# Altium integrated library Xilinx XC4000XL.IntLib: 450 symbols (part 5 of 58)
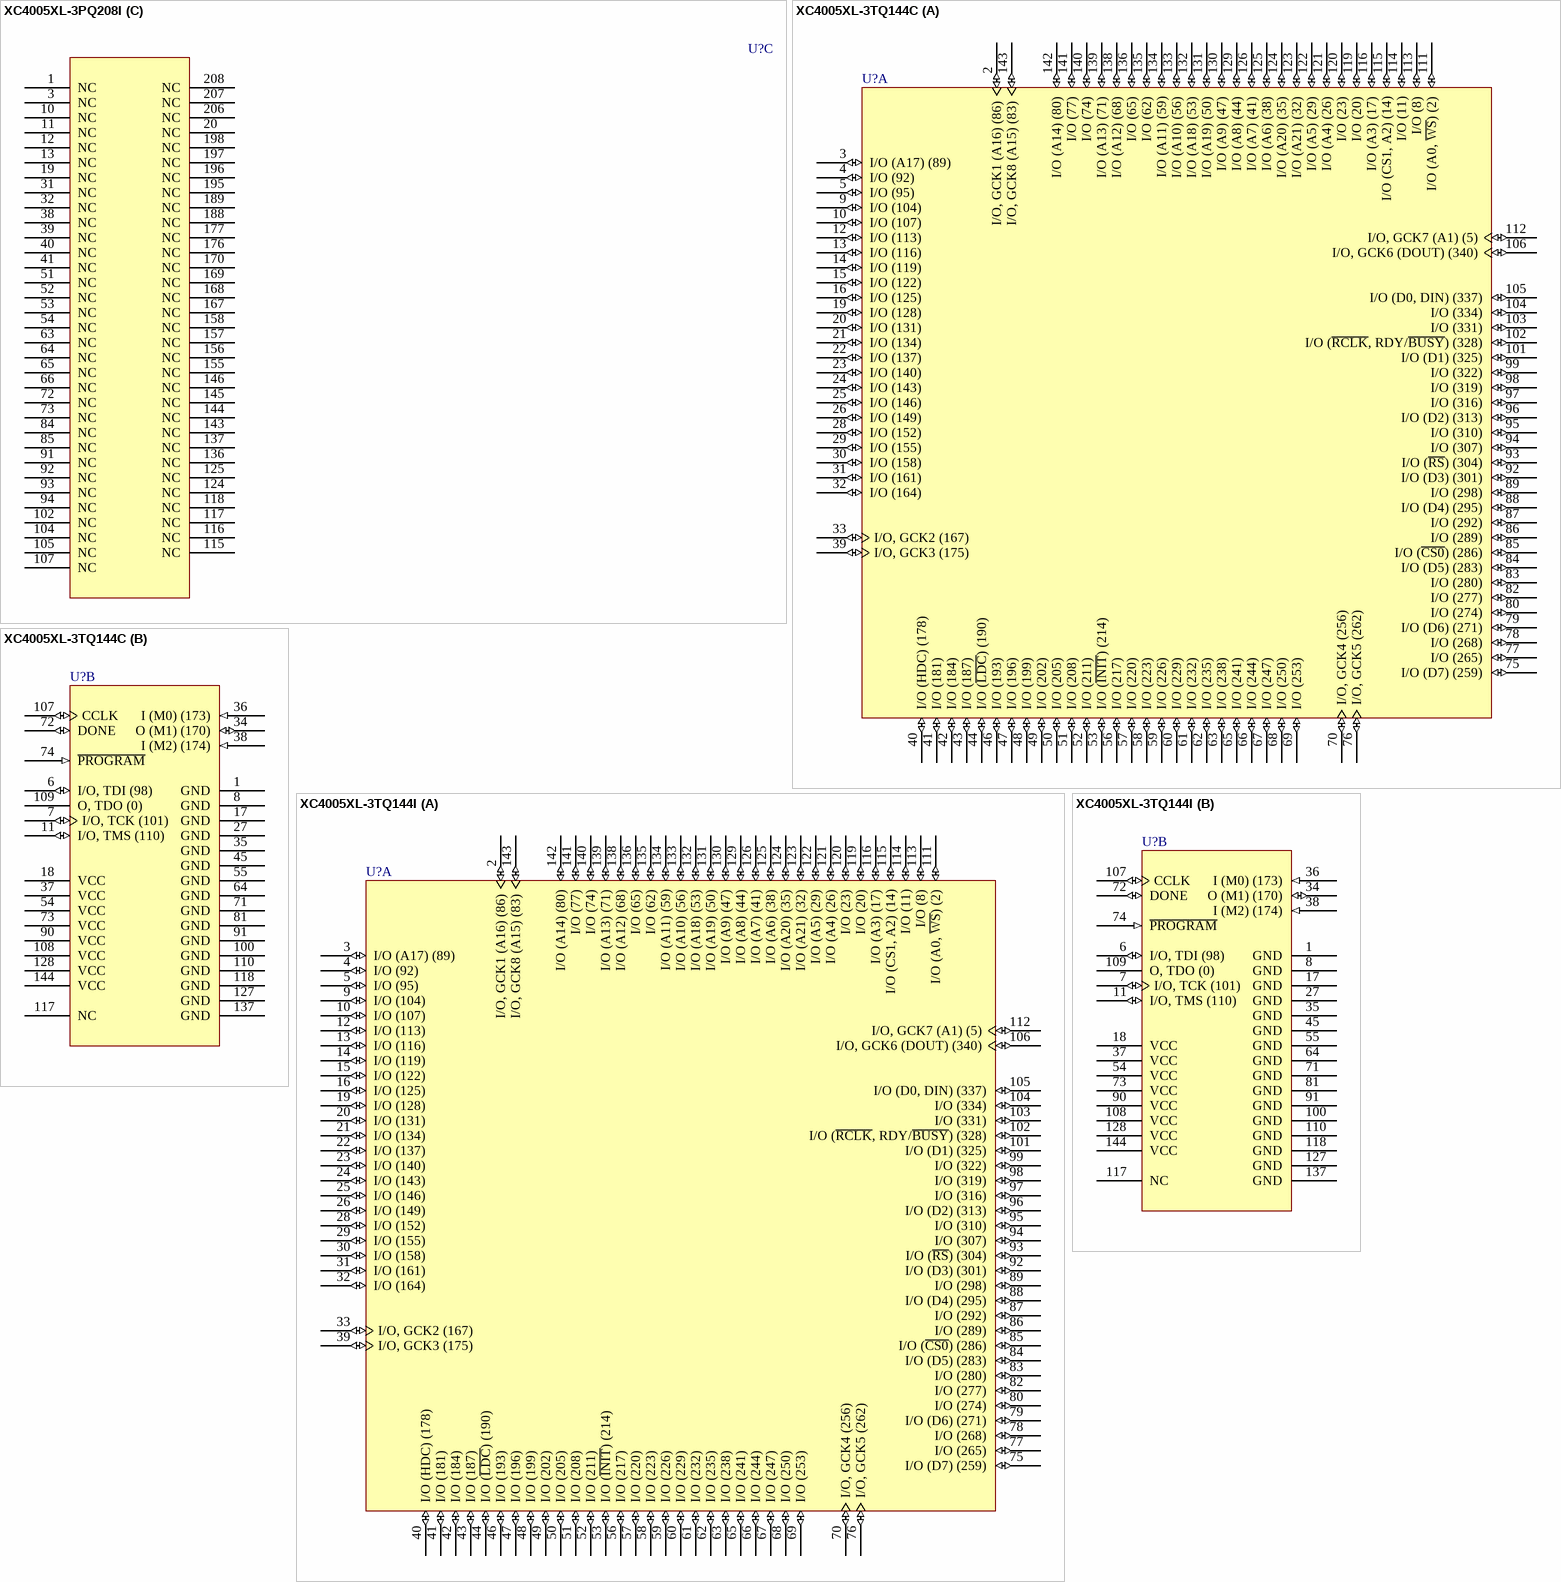
[diagram p403: symbols XC4005XL-3PQ208I to XC4005XL-3TQ144I]

## XC4005XL-3TQ144C
designator U?
XC4000XL FPGA, 112 I/Os, 144-Pin TQFP, Speed Grade 3, Commercial Grade; Published: 28-Feb-2003; LatestRevisionDate: 13-Apr-2006; LatestRevisionNote: IPC-7351 Footprint Added.; DatasheetVersion: ver1.6, May-1999; PackageVersion: ver1.2, Jun-2004; PackageReference: TQ144; Publisher: Altium Limited; PackageDescription: 144-Pin Thin Quad Flat Pack (TQ144); Supplier 1: Digi-Key; Supplier Part Number 1: XC4005XL-3TQ144C-ND; Code_JEDEC: MS-026-BFB; ComponentLink1Description: XC4000XL Datasheet; ComponentLink1URL: http://www.xilinx.com/support/documentation/data_sheets/4000.pdf; ComponentLink2Description: TQ144 Package Drawing; ComponentLink2URL: http://www.xilinx.com/support/documentation/package_specs/tq144.pdf; ComponentLink3Description: XC4000 Documents; ComponentLink3URL: http://www.xilinx.com/support/documentation/xc4000.htm; ComponentLink4Description: Xilinx.com Home; ComponentLink4URL: http://www.xilinx.com
footprint TQ144_N (Thin QFP, 144-Leads, Body 20x20mm, Pitch 0.5mm, IPC Medium Density)
footprint TQ144_L (Thin QFP, 144-Leads, Body 20x20mm, Pitch 0.5mm, IPC High Density)
footprint TQ144_M (Thin QFP, 144-Leads, Body 20x20mm, Pitch 0.5mm, IPC Low Density)
part A pins: 2 I/O, GCK1 (A16) (86) (io), 3 I/O (A17) (89) (io), 4 I/O (92) (io), 5 I/O (95) (io), 9 I/O (104) (io), 10 I/O (107) (io), 12 I/O (113) (io), 13 I/O (116) (io), 14 I/O (119) (io), 15 I/O (122) (io), 16 I/O (125) (io), 19 I/O (128) (io), 20 I/O (131) (io), 21 I/O (134) (io), 22 I/O (137) (io), 23 I/O (140) (io), 24 I/O (143) (io), 25 I/O (146) (io), 26 I/O (149) (io), 28 I/O (152) (io), 29 I/O (155) (io), 30 I/O (158) (io), 31 I/O (161) (io), 32 I/O (164) (io), 33 I/O, GCK2 (167) (io), 39 I/O, GCK3 (175) (io), 40 I/O (HDC) (178) (io), 41 I/O (181) (io), 42 I/O (184) (io), 43 I/O (187) (io), 44 I/O (~{LDC}) (190) (io), 46 I/O (193) (io), 47 I/O (196) (io), 48 I/O (199) (io), 49 I/O (202) (io), 50 I/O (205) (io), 51 I/O (208) (io), 52 I/O (211) (io), 53 I/O (~{INIT}) (214) (io), 56 I/O (217) (io), 57 I/O (220) (io), 58 I/O (223) (io), 59 I/O (226) (io), 60 I/O (229) (io), 61 I/O (232) (io), 62 I/O (235) (io), 63 I/O (238) (io), 65 I/O (241) (io), 66 I/O (244) (io), 67 I/O (247) (io), 68 I/O (250) (io), 69 I/O (253) (io), 70 I/O, GCK4 (256) (io), 75 I/O (D7) (259) (io), 76 I/O, GCK5 (262) (io), 77 I/O (265) (io), 78 I/O (268) (io), 79 I/O (D6) (271) (io), 80 I/O (274) (io), 82 I/O (277) (io), 83 I/O (280) (io), 84 I/O (D5) (283) (io), 85 I/O (~{CS0}) (286) (io), 86 I/O (289) (io), 87 I/O (292) (io), 88 I/O (D4) (295) (io), 89 I/O (298) (io), 92 I/O (D3) (301) (io), 93 I/O (~{RS}) (304) (io), 94 I/O (307) (io), 95 I/O (310) (io), 96 I/O (D2) (313) (io), 97 I/O (316) (io), 98 I/O (319) (io), 99 I/O (322) (io), 101 I/O (D1) (325) (io), 102 I/O (~{RCLK}, RDY/~{BUSY}) (328) (io), 103 I/O (331) (io), 104 I/O (334) (io), 105 I/O (D0, DIN) (337) (io), 106 I/O, GCK6 (DOUT) (340) (io), 111 I/O (A0, ~{WS}) (2) (io), 112 I/O, GCK7 (A1) (5) (io), 113 I/O (8) (io), 114 I/O (11) (io), 115 I/O (CS1, A2) (14) (io), 116 I/O (A3) (17) (io), 119 I/O (20) (io), 120 I/O (23) (io), 121 I/O (A4) (26) (io), 122 I/O (A5) (29) (io), 123 I/O (A21) (32) (io), 124 I/O (A20) (35) (io), 125 I/O (A6) (38) (io), 126 I/O (A7) (41) (io), 129 I/O (A8) (44) (io), 130 I/O (A9) (47) (io), 131 I/O (A19) (50) (io), 132 I/O (A18) (53) (io), 133 I/O (A10) (56) (io), 134 I/O (A11) (59) (io), 135 I/O (62) (io), 136 I/O (65) (io), 138 I/O (A12) (68) (io), 139 I/O (A13) (71) (io), 140 I/O (74) (io), 141 I/O (77) (io), 142 I/O (A14) (80) (io), 143 I/O, GCK8 (A15) (83) (io)
part B pins: 1 GND (power), 6 I/O, TDI (98) (io), 7 I/O, TCK (101) (io), 8 GND (power), 11 I/O, TMS (110) (io), 17 GND (power), 18 VCC (power), 27 GND (power), 34 O (M1) (170) (io), 35 GND (power), 36 I (M0) (173) (in), 37 VCC (power), 38 I (M2) (174) (in), 45 GND (power), 54 VCC (power), 55 GND (power), 64 GND (power), 71 GND (power), 72 DONE (io), 73 VCC (power), 74 ~{PROGRAM} (in), 81 GND (power), 90 VCC (power), 91 GND (power), 100 GND (power), 107 CCLK (io), 108 VCC (power), 109 O, TDO (0) (hiz), 110 GND (power), 117 NC, 118 GND (power), 127 GND (power), 128 VCC (power), 137 GND (power), 144 VCC (power)

## XC4005XL-3TQ144I
designator U?
XC4000XL FPGA, 112 I/Os, 144-Pin TQFP, Speed Grade 3, Industrial Grade; Published: 28-Feb-2003; LatestRevisionDate: 13-Apr-2006; LatestRevisionNote: IPC-7351 Footprint Added.; DatasheetVersion: ver1.6, May-1999; PackageVersion: ver1.2, Jun-2004; PackageReference: TQ144; Publisher: Altium Limited; PackageDescription: 144-Pin Thin Quad Flat Pack (TQ144); Supplier 1: Digi-Key; Supplier Part Number 1: XC4005XL-3TQ144I-ND; Code_JEDEC: MS-026-BFB; ComponentLink1Description: XC4000XL Datasheet; ComponentLink1URL: http://www.xilinx.com/support/documentation/data_sheets/4000.pdf; ComponentLink2Description: TQ144 Package Drawing; ComponentLink2URL: http://www.xilinx.com/support/documentation/package_specs/tq144.pdf; ComponentLink3Description: XC4000 Documents; ComponentLink3URL: http://www.xilinx.com/support/documentation/xc4000.htm; ComponentLink4Description: Xilinx.com Home; ComponentLink4URL: http://www.xilinx.com
footprint TQ144_N (Thin QFP, 144-Leads, Body 20x20mm, Pitch 0.5mm, IPC Medium Density)
footprint TQ144_L (Thin QFP, 144-Leads, Body 20x20mm, Pitch 0.5mm, IPC High Density)
footprint TQ144_M (Thin QFP, 144-Leads, Body 20x20mm, Pitch 0.5mm, IPC Low Density)
part A pins: 2 I/O, GCK1 (A16) (86) (io), 3 I/O (A17) (89) (io), 4 I/O (92) (io), 5 I/O (95) (io), 9 I/O (104) (io), 10 I/O (107) (io), 12 I/O (113) (io), 13 I/O (116) (io), 14 I/O (119) (io), 15 I/O (122) (io), 16 I/O (125) (io), 19 I/O (128) (io), 20 I/O (131) (io), 21 I/O (134) (io), 22 I/O (137) (io), 23 I/O (140) (io), 24 I/O (143) (io), 25 I/O (146) (io), 26 I/O (149) (io), 28 I/O (152) (io), 29 I/O (155) (io), 30 I/O (158) (io), 31 I/O (161) (io), 32 I/O (164) (io), 33 I/O, GCK2 (167) (io), 39 I/O, GCK3 (175) (io), 40 I/O (HDC) (178) (io), 41 I/O (181) (io), 42 I/O (184) (io), 43 I/O (187) (io), 44 I/O (~{LDC}) (190) (io), 46 I/O (193) (io), 47 I/O (196) (io), 48 I/O (199) (io), 49 I/O (202) (io), 50 I/O (205) (io), 51 I/O (208) (io), 52 I/O (211) (io), 53 I/O (~{INIT}) (214) (io), 56 I/O (217) (io), 57 I/O (220) (io), 58 I/O (223) (io), 59 I/O (226) (io), 60 I/O (229) (io), 61 I/O (232) (io), 62 I/O (235) (io), 63 I/O (238) (io), 65 I/O (241) (io), 66 I/O (244) (io), 67 I/O (247) (io), 68 I/O (250) (io), 69 I/O (253) (io), 70 I/O, GCK4 (256) (io), 75 I/O (D7) (259) (io), 76 I/O, GCK5 (262) (io), 77 I/O (265) (io), 78 I/O (268) (io), 79 I/O (D6) (271) (io), 80 I/O (274) (io), 82 I/O (277) (io), 83 I/O (280) (io), 84 I/O (D5) (283) (io), 85 I/O (~{CS0}) (286) (io), 86 I/O (289) (io), 87 I/O (292) (io), 88 I/O (D4) (295) (io), 89 I/O (298) (io), 92 I/O (D3) (301) (io), 93 I/O (~{RS}) (304) (io), 94 I/O (307) (io), 95 I/O (310) (io), 96 I/O (D2) (313) (io), 97 I/O (316) (io), 98 I/O (319) (io), 99 I/O (322) (io), 101 I/O (D1) (325) (io), 102 I/O (~{RCLK}, RDY/~{BUSY}) (328) (io), 103 I/O (331) (io), 104 I/O (334) (io), 105 I/O (D0, DIN) (337) (io), 106 I/O, GCK6 (DOUT) (340) (io), 111 I/O (A0, ~{WS}) (2) (io), 112 I/O, GCK7 (A1) (5) (io), 113 I/O (8) (io), 114 I/O (11) (io), 115 I/O (CS1, A2) (14) (io), 116 I/O (A3) (17) (io), 119 I/O (20) (io), 120 I/O (23) (io), 121 I/O (A4) (26) (io), 122 I/O (A5) (29) (io), 123 I/O (A21) (32) (io), 124 I/O (A20) (35) (io), 125 I/O (A6) (38) (io), 126 I/O (A7) (41) (io), 129 I/O (A8) (44) (io), 130 I/O (A9) (47) (io), 131 I/O (A19) (50) (io), 132 I/O (A18) (53) (io), 133 I/O (A10) (56) (io), 134 I/O (A11) (59) (io), 135 I/O (62) (io), 136 I/O (65) (io), 138 I/O (A12) (68) (io), 139 I/O (A13) (71) (io), 140 I/O (74) (io), 141 I/O (77) (io), 142 I/O (A14) (80) (io), 143 I/O, GCK8 (A15) (83) (io)
part B pins: 1 GND (power), 6 I/O, TDI (98) (io), 7 I/O, TCK (101) (io), 8 GND (power), 11 I/O, TMS (110) (io), 17 GND (power), 18 VCC (power), 27 GND (power), 34 O (M1) (170) (io), 35 GND (power), 36 I (M0) (173) (in), 37 VCC (power), 38 I (M2) (174) (in), 45 GND (power), 54 VCC (power), 55 GND (power), 64 GND (power), 71 GND (power), 72 DONE (io), 73 VCC (power), 74 ~{PROGRAM} (in), 81 GND (power), 90 VCC (power), 91 GND (power), 100 GND (power), 107 CCLK (io), 108 VCC (power), 109 O, TDO (0) (hiz), 110 GND (power), 117 NC, 118 GND (power), 127 GND (power), 128 VCC (power), 137 GND (power), 144 VCC (power)

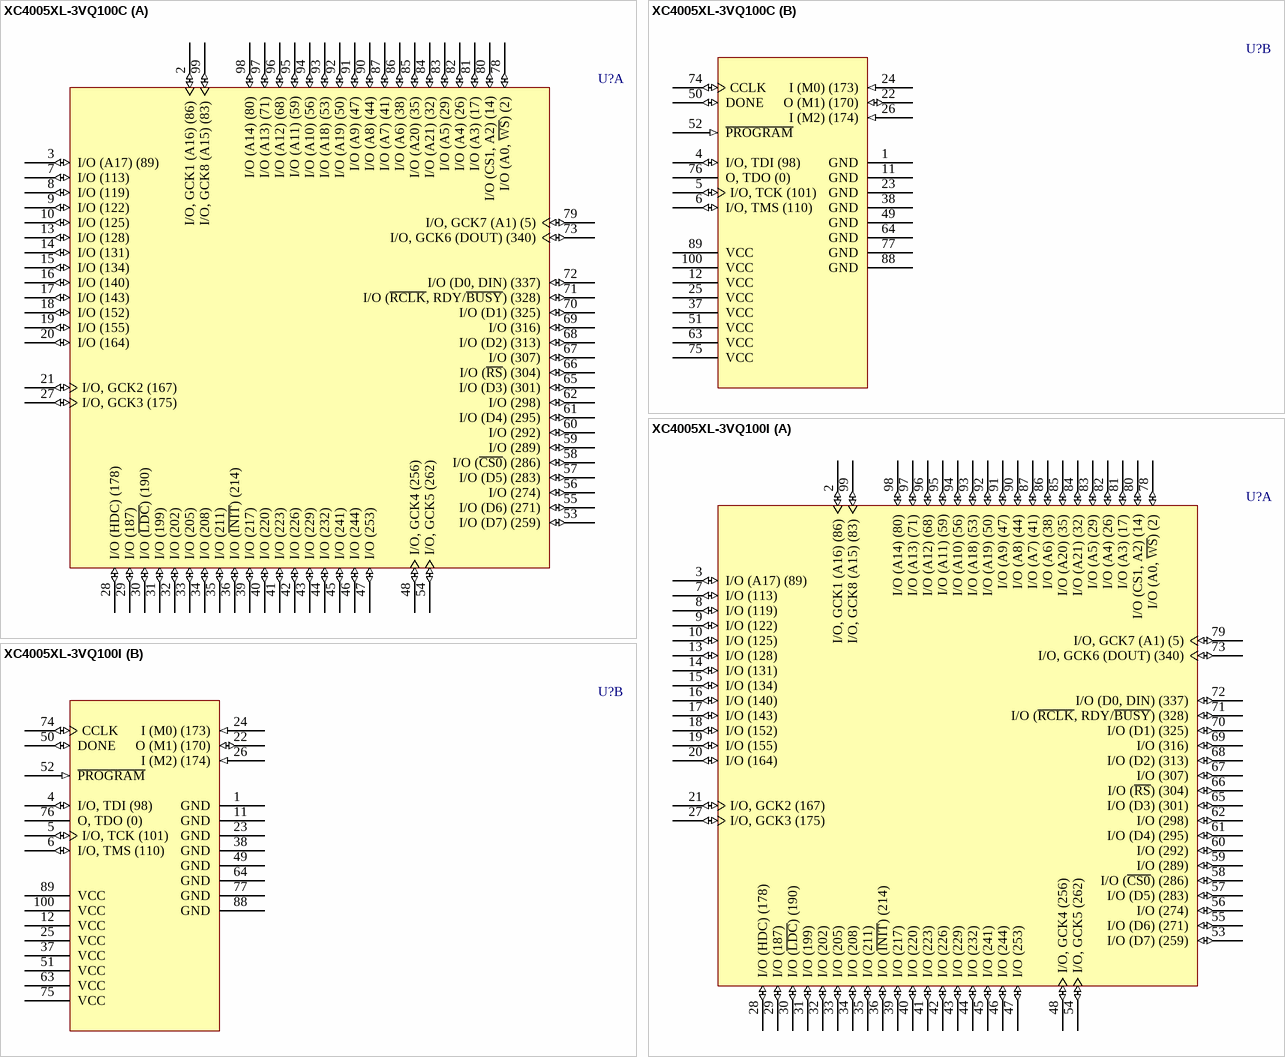
[diagram p23: symbols XC4005XL-3VQ100C to XC4005XL-3VQ100I]

## XC4005XL-3VQ100C
designator U?
XC4000XL FPGA, 77 I/Os, 100-Pin VQFP, Speed Grade 3, Commercial Grade; Published: 28-Feb-2003; LatestRevisionDate: 13-Apr-2006; LatestRevisionNote: IPC-7351 Footprint Added.; DatasheetVersion: ver1.6, May-1999; PackageVersion: ver1.2.1, Feb-2007; PackageReference: VQ100; Publisher: Altium Limited; PackageDescription: 100-Pin Very Thin Quad Flat Pack (VQ100); Supplier 1: Digi-Key; Supplier Part Number 1: XC4005XL-3VQ100C-ND; Code_JEDEC: MS-026-AED; ComponentLink1Description: XC4000XL Datasheet; ComponentLink1URL: http://www.xilinx.com/support/documentation/data_sheets/4000.pdf; ComponentLink2Description: VQ100 Package Drawing; ComponentLink2URL: http://www.xilinx.com/support/documentation/package_specs/vq100.pdf; ComponentLink3Description: XC4000 Documents; ComponentLink3URL: http://www.xilinx.com/support/documentation/xc4000.htm; ComponentLink4Description: Xilinx.com Home; ComponentLink4URL: http://www.xilinx.com
footprint VQ100_N (Thin QFP, 100-Leads, Body 14x14mm, Pitch 0.5mm, IPC Medium Density)
footprint VQ100_L (Thin QFP, 100-Leads, Body 14x14mm, Pitch 0.5mm, IPC High Density)
footprint VQ100_M (Thin QFP, 100-Leads, Body 14x14mm, Pitch 0.5mm, IPC Low Density)
part A pins: 2 I/O, GCK1 (A16) (86) (io), 3 I/O (A17) (89) (io), 7 I/O (113) (io), 8 I/O (119) (io), 9 I/O (122) (io), 10 I/O (125) (io), 13 I/O (128) (io), 14 I/O (131) (io), 15 I/O (134) (io), 16 I/O (140) (io), 17 I/O (143) (io), 18 I/O (152) (io), 19 I/O (155) (io), 20 I/O (164) (io), 21 I/O, GCK2 (167) (io), 27 I/O, GCK3 (175) (io), 28 I/O (HDC) (178) (io), 29 I/O (187) (io), 30 I/O (~{LDC}) (190) (io), 31 I/O (199) (io), 32 I/O (202) (io), 33 I/O (205) (io), 34 I/O (208) (io), 35 I/O (211) (io), 36 I/O (~{INIT}) (214) (io), 39 I/O (217) (io), 40 I/O (220) (io), 41 I/O (223) (io), 42 I/O (226) (io), 43 I/O (229) (io), 44 I/O (232) (io), 45 I/O (241) (io), 46 I/O (244) (io), 47 I/O (253) (io), 48 I/O, GCK4 (256) (io), 53 I/O (D7) (259) (io), 54 I/O, GCK5 (262) (io), 55 I/O (D6) (271) (io), 56 I/O (274) (io), 57 I/O (D5) (283) (io), 58 I/O (~{CS0}) (286) (io), 59 I/O (289) (io), 60 I/O (292) (io), 61 I/O (D4) (295) (io), 62 I/O (298) (io), 65 I/O (D3) (301) (io), 66 I/O (~{RS}) (304) (io), 67 I/O (307) (io), 68 I/O (D2) (313) (io), 69 I/O (316) (io), 70 I/O (D1) (325) (io), 71 I/O (~{RCLK}, RDY/~{BUSY}) (328) (io), 72 I/O (D0, DIN) (337) (io), 73 I/O, GCK6 (DOUT) (340) (io), 78 I/O (A0, ~{WS}) (2) (io), 79 I/O, GCK7 (A1) (5) (io), 80 I/O (CS1, A2) (14) (io), 81 I/O (A3) (17) (io), 82 I/O (A4) (26) (io), 83 I/O (A5) (29) (io), 84 I/O (A21) (32) (io), 85 I/O (A20) (35) (io), 86 I/O (A6) (38) (io), 87 I/O (A7) (41) (io), 90 I/O (A8) (44) (io), 91 I/O (A9) (47) (io), 92 I/O (A19) (50) (io), 93 I/O (A18) (53) (io), 94 I/O (A10) (56) (io), 95 I/O (A11) (59) (io), 96 I/O (A12) (68) (io), 97 I/O (A13) (71) (io), 98 I/O (A14) (80) (io), 99 I/O, GCK8 (A15) (83) (io)
part B pins: 1 GND (power), 4 I/O, TDI (98) (io), 5 I/O, TCK (101) (io), 6 I/O, TMS (110) (io), 11 GND (power), 12 VCC (power), 22 O (M1) (170) (io), 23 GND (power), 24 I (M0) (173) (in), 25 VCC (power), 26 I (M2) (174) (in), 37 VCC (power), 38 GND (power), 49 GND (power), 50 DONE (io), 51 VCC (power), 52 ~{PROGRAM} (in), 63 VCC (power), 64 GND (power), 74 CCLK (io), 75 VCC (power), 76 O, TDO (0) (hiz), 77 GND (power), 88 GND (power), 89 VCC (power), 100 VCC (power)

## XC4005XL-3VQ100I
designator U?
XC4000XL FPGA, 77 I/Os, 100-Pin VQFP, Speed Grade 3, Industrial Grade; Published: 28-Feb-2003; LatestRevisionDate: 13-Apr-2006; LatestRevisionNote: IPC-7351 Footprint Added.; DatasheetVersion: ver1.6, May-1999; PackageVersion: ver1.2.1, Feb-2007; PackageReference: VQ100; Publisher: Altium Limited; PackageDescription: 100-Pin Very Thin Quad Flat Pack (VQ100); Supplier 1: Digi-Key; Supplier Part Number 1: XC4005XL-3VQ100I-ND; Code_JEDEC: MS-026-AED; ComponentLink1Description: XC4000XL Datasheet; ComponentLink1URL: http://www.xilinx.com/support/documentation/data_sheets/4000.pdf; ComponentLink2Description: VQ100 Package Drawing; ComponentLink2URL: http://www.xilinx.com/support/documentation/package_specs/vq100.pdf; ComponentLink3Description: XC4000 Documents; ComponentLink3URL: http://www.xilinx.com/support/documentation/xc4000.htm; ComponentLink4Description: Xilinx.com Home; ComponentLink4URL: http://www.xilinx.com
footprint VQ100_N (Thin QFP, 100-Leads, Body 14x14mm, Pitch 0.5mm, IPC Medium Density)
footprint VQ100_L (Thin QFP, 100-Leads, Body 14x14mm, Pitch 0.5mm, IPC High Density)
footprint VQ100_M (Thin QFP, 100-Leads, Body 14x14mm, Pitch 0.5mm, IPC Low Density)
part A pins: 2 I/O, GCK1 (A16) (86) (io), 3 I/O (A17) (89) (io), 7 I/O (113) (io), 8 I/O (119) (io), 9 I/O (122) (io), 10 I/O (125) (io), 13 I/O (128) (io), 14 I/O (131) (io), 15 I/O (134) (io), 16 I/O (140) (io), 17 I/O (143) (io), 18 I/O (152) (io), 19 I/O (155) (io), 20 I/O (164) (io), 21 I/O, GCK2 (167) (io), 27 I/O, GCK3 (175) (io), 28 I/O (HDC) (178) (io), 29 I/O (187) (io), 30 I/O (~{LDC}) (190) (io), 31 I/O (199) (io), 32 I/O (202) (io), 33 I/O (205) (io), 34 I/O (208) (io), 35 I/O (211) (io), 36 I/O (~{INIT}) (214) (io), 39 I/O (217) (io), 40 I/O (220) (io), 41 I/O (223) (io), 42 I/O (226) (io), 43 I/O (229) (io), 44 I/O (232) (io), 45 I/O (241) (io), 46 I/O (244) (io), 47 I/O (253) (io), 48 I/O, GCK4 (256) (io), 53 I/O (D7) (259) (io), 54 I/O, GCK5 (262) (io), 55 I/O (D6) (271) (io), 56 I/O (274) (io), 57 I/O (D5) (283) (io), 58 I/O (~{CS0}) (286) (io), 59 I/O (289) (io), 60 I/O (292) (io), 61 I/O (D4) (295) (io), 62 I/O (298) (io), 65 I/O (D3) (301) (io), 66 I/O (~{RS}) (304) (io), 67 I/O (307) (io), 68 I/O (D2) (313) (io), 69 I/O (316) (io), 70 I/O (D1) (325) (io), 71 I/O (~{RCLK}, RDY/~{BUSY}) (328) (io), 72 I/O (D0, DIN) (337) (io), 73 I/O, GCK6 (DOUT) (340) (io), 78 I/O (A0, ~{WS}) (2) (io), 79 I/O, GCK7 (A1) (5) (io), 80 I/O (CS1, A2) (14) (io), 81 I/O (A3) (17) (io), 82 I/O (A4) (26) (io), 83 I/O (A5) (29) (io), 84 I/O (A21) (32) (io), 85 I/O (A20) (35) (io), 86 I/O (A6) (38) (io), 87 I/O (A7) (41) (io), 90 I/O (A8) (44) (io), 91 I/O (A9) (47) (io), 92 I/O (A19) (50) (io), 93 I/O (A18) (53) (io), 94 I/O (A10) (56) (io), 95 I/O (A11) (59) (io), 96 I/O (A12) (68) (io), 97 I/O (A13) (71) (io), 98 I/O (A14) (80) (io), 99 I/O, GCK8 (A15) (83) (io)
part B pins: 1 GND (power), 4 I/O, TDI (98) (io), 5 I/O, TCK (101) (io), 6 I/O, TMS (110) (io), 11 GND (power), 12 VCC (power), 22 O (M1) (170) (io), 23 GND (power), 24 I (M0) (173) (in), 25 VCC (power), 26 I (M2) (174) (in), 37 VCC (power), 38 GND (power), 49 GND (power), 50 DONE (io), 51 VCC (power), 52 ~{PROGRAM} (in), 63 VCC (power), 64 GND (power), 74 CCLK (io), 75 VCC (power), 76 O, TDO (0) (hiz), 77 GND (power), 88 GND (power), 89 VCC (power), 100 VCC (power)

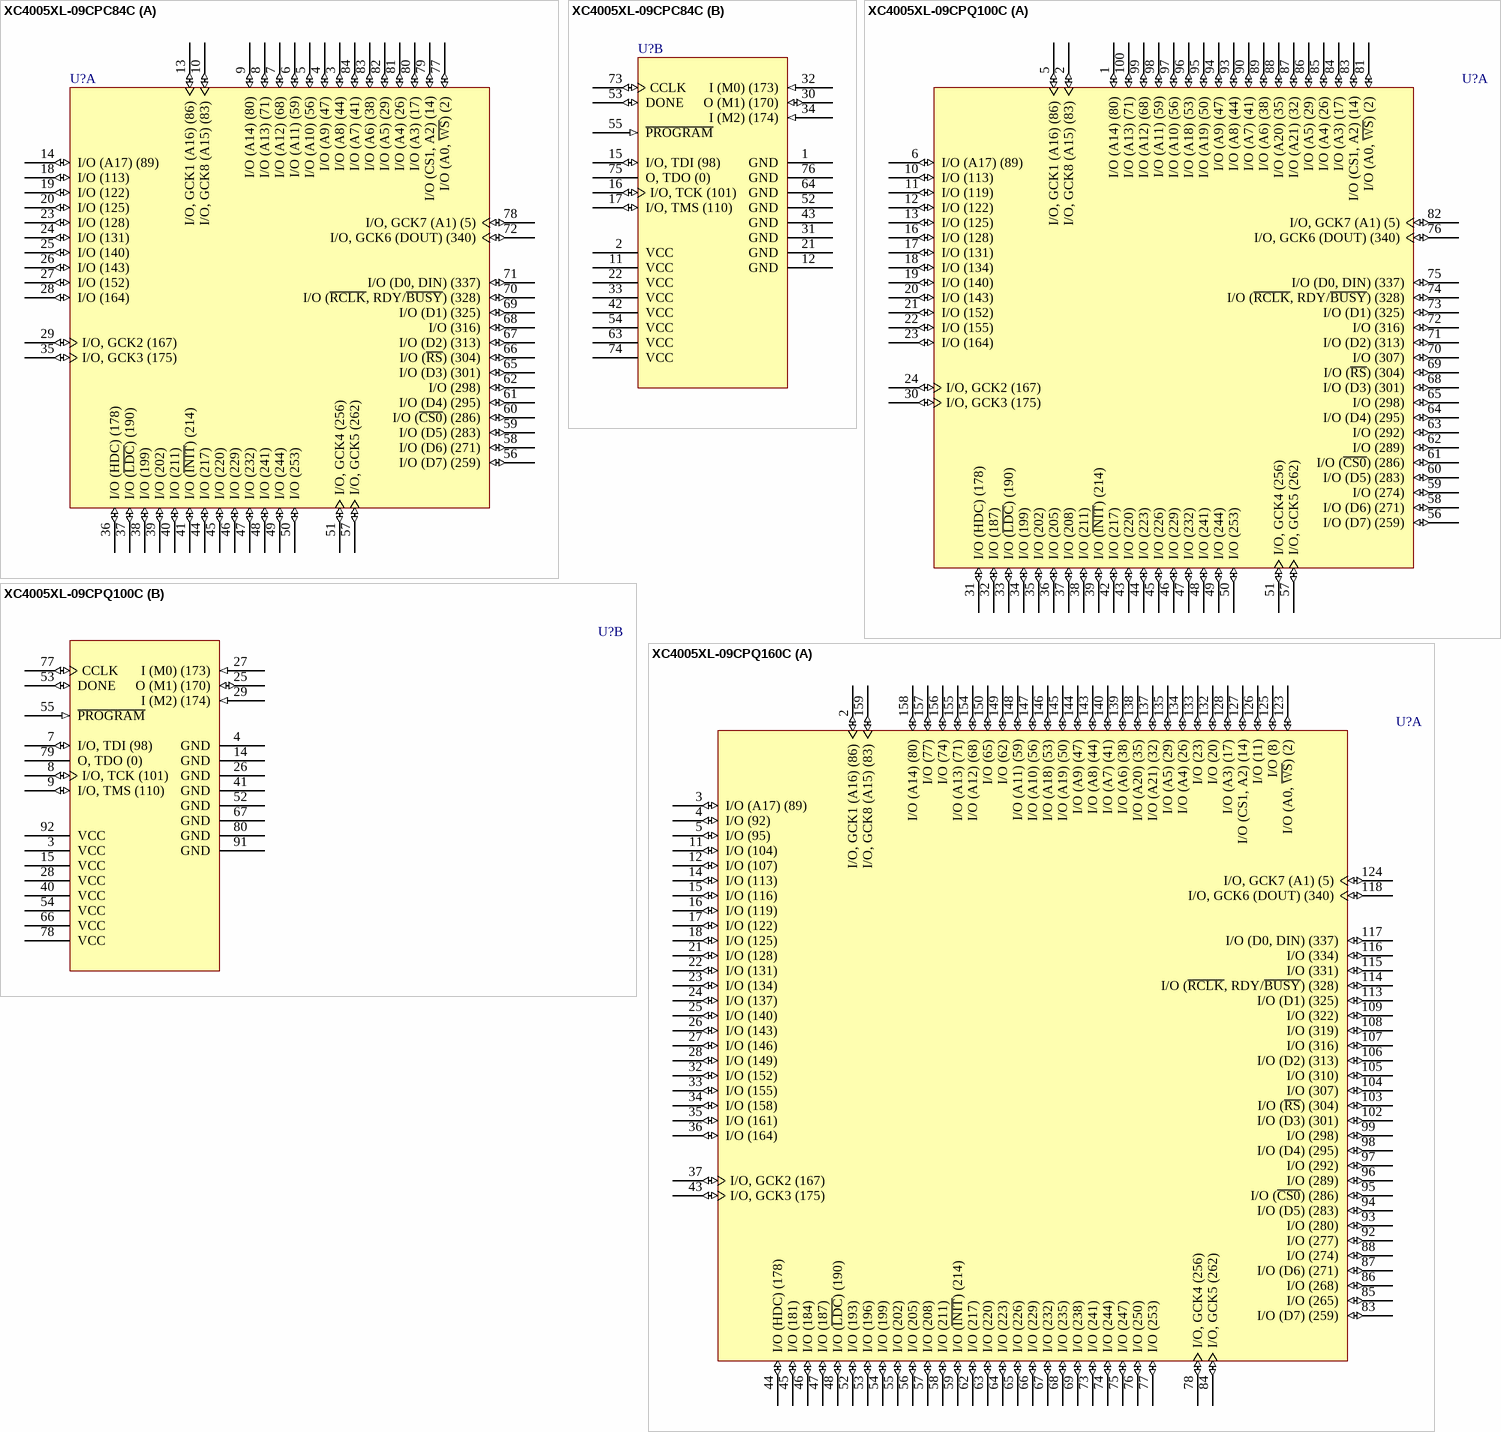
[diagram p24: symbols XC4005XL-09CPC84C to XC4005XL-09CPQ160C]

## XC4005XL-09CPC84C
designator U?
XC4000XL FPGA, 61 I/Os, 84-Pin PLCC, Speed Grade 9, Commercial Grade; Published: 28-Feb-2003; LatestRevisionDate: 13-Apr-2006; LatestRevisionNote: IPC-7351 Footprint Added.; DatasheetVersion: ver1.6, May-1999; PackageVersion: ver1.2, Jun-2004; PackageReference: PC84; Publisher: Altium Limited; PackageDescription: 84-Pin Plastic Leaded Chip Carrier (PC84); Code_JEDEC: MS-047; Code_IPC: PLCC-84; ComponentLink1Description: XC4000XL Datasheet; ComponentLink1URL: http://www.xilinx.com/support/documentation/data_sheets/4000.pdf; ComponentLink2Description: Discontinuation Notice; ComponentLink2URL: http://www.xilinx.com/support/documentation/customer_notices/pdn2004-21.pdf; ComponentLink3Description: PC84 Package Drawing; ComponentLink3URL: http://www.xilinx.com/support/documentation/package_specs/pc84.pdf; ComponentLink4Description: XC4000 Documents; ComponentLink4URL: http://www.xilinx.com/support/documentation/xc4000.htm; ComponentLink5Description: Xilinx.com Home; ComponentLink5URL: http://www.xilinx.com
footprint PC84_N (Leaded Chip Carrier, 84-Leads, Body 29.3x29.3mm, Pitch 1.27mm, IPC Medium Density)
footprint PC84_L (Leaded Chip Carrier, 84-Leads, Body 29.3x29.3mm, Pitch 1.27mm, IPC High Density)
footprint PC84_M (Leaded Chip Carrier, 84-Leads, Body 29.3x29.3mm, Pitch 1.27mm, IPC Low Density)
part A pins: 3 I/O (A8) (44) (io), 4 I/O (A9) (47) (io), 5 I/O (A10) (56) (io), 6 I/O (A11) (59) (io), 7 I/O (A12) (68) (io), 8 I/O (A13) (71) (io), 9 I/O (A14) (80) (io), 10 I/O, GCK8 (A15) (83) (io), 13 I/O, GCK1 (A16) (86) (io), 14 I/O (A17) (89) (io), 18 I/O (113) (io), 19 I/O (122) (io), 20 I/O (125) (io), 23 I/O (128) (io), 24 I/O (131) (io), 25 I/O (140) (io), 26 I/O (143) (io), 27 I/O (152) (io), 28 I/O (164) (io), 29 I/O, GCK2 (167) (io), 35 I/O, GCK3 (175) (io), 36 I/O (HDC) (178) (io), 37 I/O (~{LDC}) (190) (io), 38 I/O (199) (io), 39 I/O (202) (io), 40 I/O (211) (io), 41 I/O (~{INIT}) (214) (io), 44 I/O (217) (io), 45 I/O (220) (io), 46 I/O (229) (io), 47 I/O (232) (io), 48 I/O (241) (io), 49 I/O (244) (io), 50 I/O (253) (io), 51 I/O, GCK4 (256) (io), 56 I/O (D7) (259) (io), 57 I/O, GCK5 (262) (io), 58 I/O (D6) (271) (io), 59 I/O (D5) (283) (io), 60 I/O (~{CS0}) (286) (io), 61 I/O (D4) (295) (io), 62 I/O (298) (io), 65 I/O (D3) (301) (io), 66 I/O (~{RS}) (304) (io), 67 I/O (D2) (313) (io), 68 I/O (316) (io), 69 I/O (D1) (325) (io), 70 I/O (~{RCLK}, RDY/~{BUSY}) (328) (io), 71 I/O (D0, DIN) (337) (io), 72 I/O, GCK6 (DOUT) (340) (io), 77 I/O (A0, ~{WS}) (2) (io), 78 I/O, GCK7 (A1) (5) (io), 79 I/O (CS1, A2) (14) (io), 80 I/O (A3) (17) (io), 81 I/O (A4) (26) (io), 82 I/O (A5) (29) (io), 83 I/O (A6) (38) (io), 84 I/O (A7) (41) (io)
part B pins: 1 GND (power), 2 VCC (power), 11 VCC (power), 12 GND (power), 15 I/O, TDI (98) (io), 16 I/O, TCK (101) (io), 17 I/O, TMS (110) (io), 21 GND (power), 22 VCC (power), 30 O (M1) (170) (io), 31 GND (power), 32 I (M0) (173) (in), 33 VCC (power), 34 I (M2) (174) (in), 42 VCC (power), 43 GND (power), 52 GND (power), 53 DONE (io), 54 VCC (power), 55 ~{PROGRAM} (in), 63 VCC (power), 64 GND (power), 73 CCLK (io), 74 VCC (power), 75 O, TDO (0) (hiz), 76 GND (power)

## XC4005XL-09CPQ100C
designator U?
XC4000XL FPGA, 77 I/Os, 100-Pin PQFP, Speed Grade 9, Commercial Grade; Published: 28-Feb-2003; LatestRevisionDate: 13-Apr-2006; LatestRevisionNote: IPC-7351 Footprint Added.; DatasheetVersion: ver1.6, May-1999; PackageVersion: ver1.2, Oct-2002; PackageReference: PQ100; Publisher: Altium Limited; PackageDescription: 100-Pin Plastic Quad Flat Pack (PQ100); Code_IPC: QFP65P1720X2320-100; ComponentLink1Description: XC4000XL Datasheet; ComponentLink1URL: http://www.xilinx.com/support/documentation/data_sheets/4000.pdf; ComponentLink2Description: Discontinuation Notice; ComponentLink2URL: http://www.xilinx.com/support/documentation/customer_notices/pdn2004-21.pdf; ComponentLink3Description: PQ100 Package Drawing; ComponentLink3URL: http://www.xilinx.com/support/documentation/package_specs/pq100.pdf; ComponentLink4Description: XC4000 Documents; ComponentLink4URL: http://www.xilinx.com/support/documentation/xc4000.htm; ComponentLink5Description: Xilinx.com Home; ComponentLink5URL: http://www.xilinx.com
footprint PQ100_N (QFP, 100-Leads, Body 20x14mm, Pitch 0.65mm, IPC Medium Density)
footprint PQ100_L (QFP, 100-Leads, Body 20x14mm, Pitch 0.65mm, IPC High Density)
footprint PQ100_M (QFP, 100-Leads, Body 20x14mm, Pitch 0.65mm, IPC Low Density)
part A pins: 1 I/O (A14) (80) (io), 2 I/O, GCK8 (A15) (83) (io), 5 I/O, GCK1 (A16) (86) (io), 6 I/O (A17) (89) (io), 10 I/O (113) (io), 11 I/O (119) (io), 12 I/O (122) (io), 13 I/O (125) (io), 16 I/O (128) (io), 17 I/O (131) (io), 18 I/O (134) (io), 19 I/O (140) (io), 20 I/O (143) (io), 21 I/O (152) (io), 22 I/O (155) (io), 23 I/O (164) (io), 24 I/O, GCK2 (167) (io), 30 I/O, GCK3 (175) (io), 31 I/O (HDC) (178) (io), 32 I/O (187) (io), 33 I/O (~{LDC}) (190) (io), 34 I/O (199) (io), 35 I/O (202) (io), 36 I/O (205) (io), 37 I/O (208) (io), 38 I/O (211) (io), 39 I/O (~{INIT}) (214) (io), 42 I/O (217) (io), 43 I/O (220) (io), 44 I/O (223) (io), 45 I/O (226) (io), 46 I/O (229) (io), 47 I/O (232) (io), 48 I/O (241) (io), 49 I/O (244) (io), 50 I/O (253) (io), 51 I/O, GCK4 (256) (io), 56 I/O (D7) (259) (io), 57 I/O, GCK5 (262) (io), 58 I/O (D6) (271) (io), 59 I/O (274) (io), 60 I/O (D5) (283) (io), 61 I/O (~{CS0}) (286) (io), 62 I/O (289) (io), 63 I/O (292) (io), 64 I/O (D4) (295) (io), 65 I/O (298) (io), 68 I/O (D3) (301) (io), 69 I/O (~{RS}) (304) (io), 70 I/O (307) (io), 71 I/O (D2) (313) (io), 72 I/O (316) (io), 73 I/O (D1) (325) (io), 74 I/O (~{RCLK}, RDY/~{BUSY}) (328) (io), 75 I/O (D0, DIN) (337) (io), 76 I/O, GCK6 (DOUT) (340) (io), 81 I/O (A0, ~{WS}) (2) (io), 82 I/O, GCK7 (A1) (5) (io), 83 I/O (CS1, A2) (14) (io), 84 I/O (A3) (17) (io), 85 I/O (A4) (26) (io), 86 I/O (A5) (29) (io), 87 I/O (A21) (32) (io), 88 I/O (A20) (35) (io), 89 I/O (A6) (38) (io), 90 I/O (A7) (41) (io), 93 I/O (A8) (44) (io), 94 I/O (A9) (47) (io), 95 I/O (A19) (50) (io), 96 I/O (A18) (53) (io), 97 I/O (A10) (56) (io), 98 I/O (A11) (59) (io), 99 I/O (A12) (68) (io), 100 I/O (A13) (71) (io)
part B pins: 3 VCC (power), 4 GND (power), 7 I/O, TDI (98) (io), 8 I/O, TCK (101) (io), 9 I/O, TMS (110) (io), 14 GND (power), 15 VCC (power), 25 O (M1) (170) (io), 26 GND (power), 27 I (M0) (173) (in), 28 VCC (power), 29 I (M2) (174) (in), 40 VCC (power), 41 GND (power), 52 GND (power), 53 DONE (io), 54 VCC (power), 55 ~{PROGRAM} (in), 66 VCC (power), 67 GND (power), 77 CCLK (io), 78 VCC (power), 79 O, TDO (0) (hiz), 80 GND (power), 91 GND (power), 92 VCC (power)

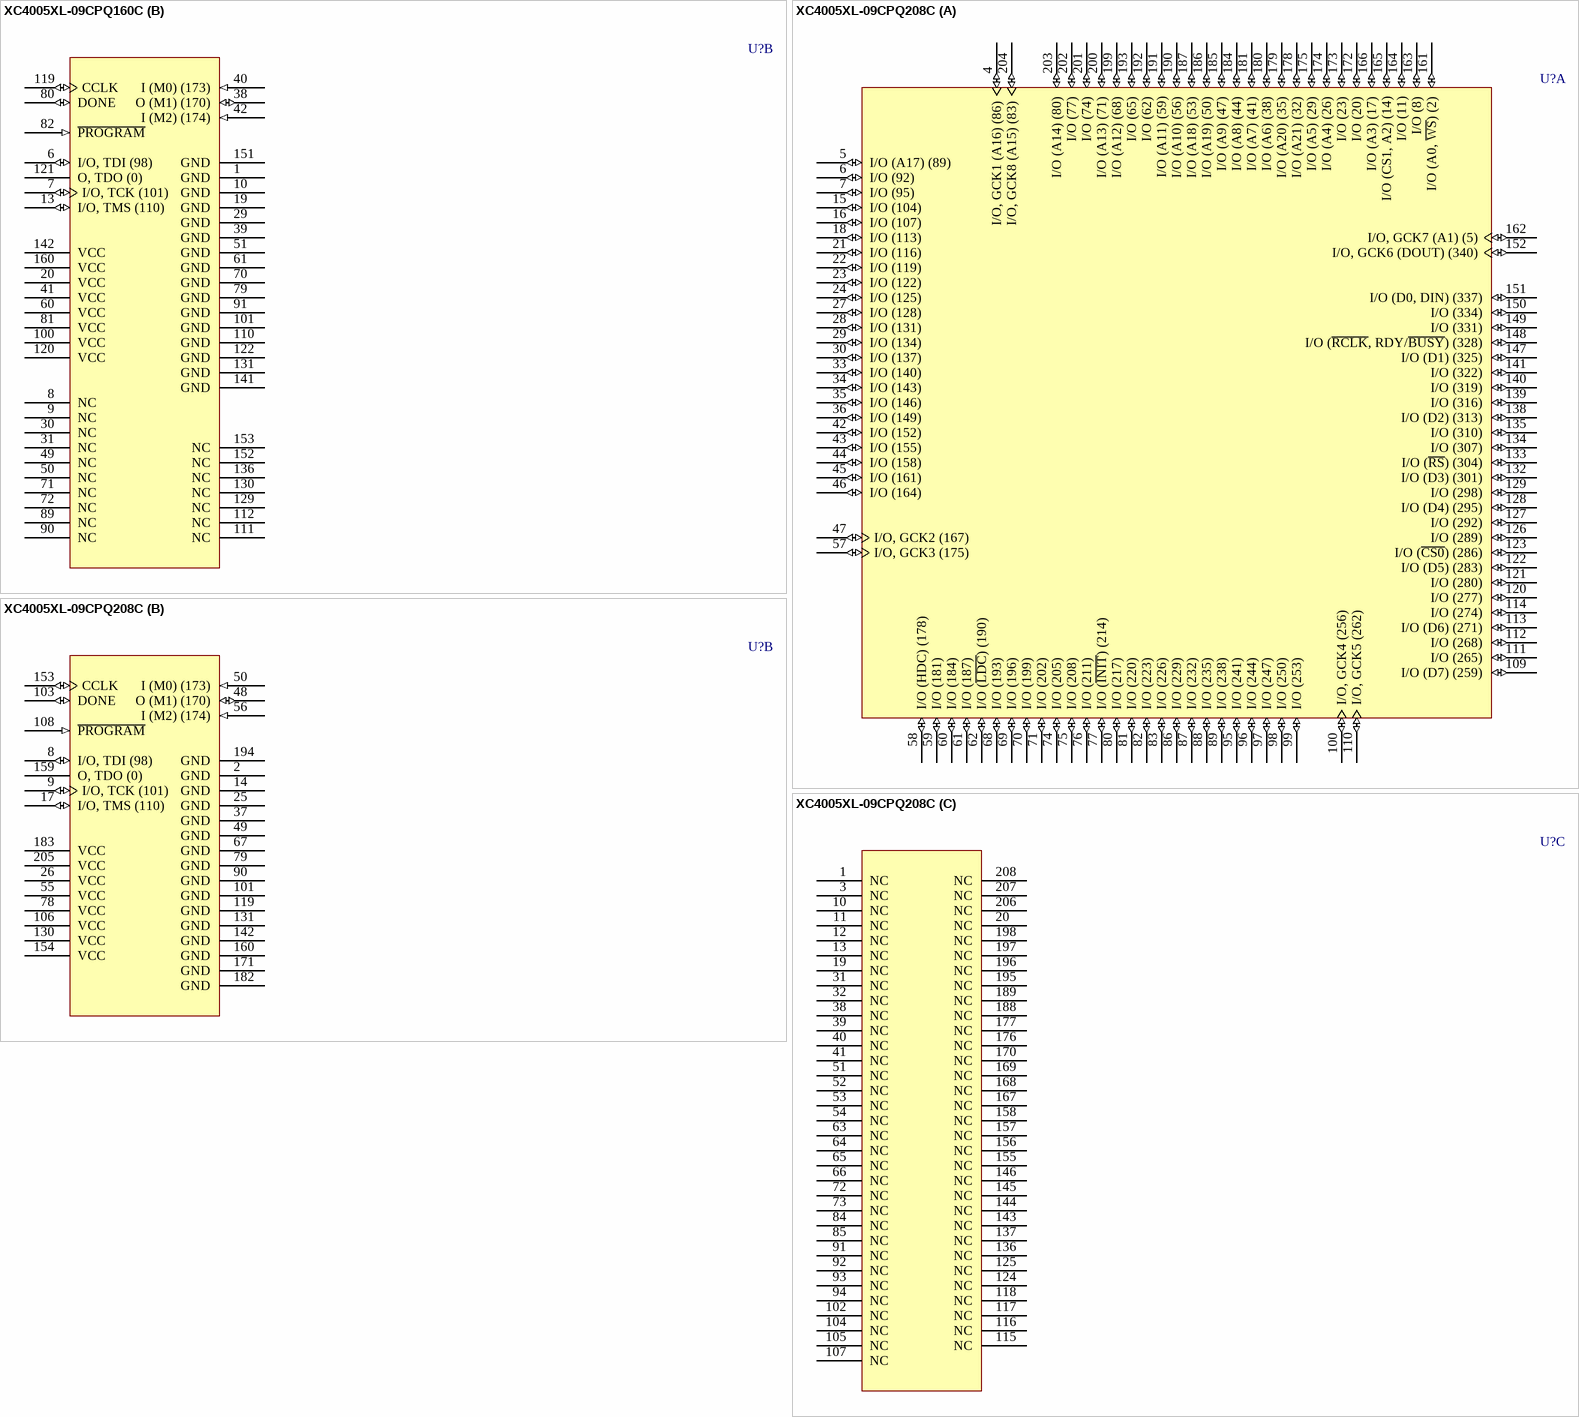
[diagram p25: symbols XC4005XL-09CPQ160C to XC4005XL-09CPQ208C]

## XC4005XL-09CPQ160C
designator U?
XC4000XL FPGA, 112 I/Os, 160-Pin PQFP, Speed Grade 9, Commercial Grade; Published: 28-Feb-2003; LatestRevisionDate: 13-Apr-2006; LatestRevisionNote: IPC-7351 Footprint Added.; DatasheetVersion: ver1.6, May-1999; PackageVersion: ver1.2, Jun-2004; PackageReference: PQ160; Publisher: Altium Limited; PackageDescription: 160-Pin Plastic Quad Flat Pack (PQ160); Code_JEDEC: MS-022-DD1; Code_IPC: QFP65P3120X3120-160; ComponentLink1Description: XC4000XL Datasheet; ComponentLink1URL: http://www.xilinx.com/support/documentation/data_sheets/4000.pdf; ComponentLink2Description: PQ160 Package Drawing; ComponentLink2URL: http://www.xilinx.com/support/documentation/package_specs/pq160.pdf; ComponentLink3Description: XC4000 Documents; ComponentLink3URL: http://www.xilinx.com/support/documentation/xc4000.htm; ComponentLink4Description: Xilinx.com Home; ComponentLink4URL: http://www.xilinx.com
footprint PQ160_N (QFP, 160-Leads, Body 28x28mm, Pitch 0.65mm, IPC Medium Density)
footprint PQ160_L (QFP, 160-Leads, Body 28x28mm, Pitch 0.65mm, IPC High Density)
footprint PQ160_M (QFP, 160-Leads, Body 28x28mm, Pitch 0.65mm, IPC Low Density)
part A pins: 2 I/O, GCK1 (A16) (86) (io), 3 I/O (A17) (89) (io), 4 I/O (92) (io), 5 I/O (95) (io), 11 I/O (104) (io), 12 I/O (107) (io), 14 I/O (113) (io), 15 I/O (116) (io), 16 I/O (119) (io), 17 I/O (122) (io), 18 I/O (125) (io), 21 I/O (128) (io), 22 I/O (131) (io), 23 I/O (134) (io), 24 I/O (137) (io), 25 I/O (140) (io), 26 I/O (143) (io), 27 I/O (146) (io), 28 I/O (149) (io), 32 I/O (152) (io), 33 I/O (155) (io), 34 I/O (158) (io), 35 I/O (161) (io), 36 I/O (164) (io), 37 I/O, GCK2 (167) (io), 43 I/O, GCK3 (175) (io), 44 I/O (HDC) (178) (io), 45 I/O (181) (io), 46 I/O (184) (io), 47 I/O (187) (io), 48 I/O (~{LDC}) (190) (io), 52 I/O (193) (io), 53 I/O (196) (io), 54 I/O (199) (io), 55 I/O (202) (io), 56 I/O (205) (io), 57 I/O (208) (io), 58 I/O (211) (io), 59 I/O (~{INIT}) (214) (io), 62 I/O (217) (io), 63 I/O (220) (io), 64 I/O (223) (io), 65 I/O (226) (io), 66 I/O (229) (io), 67 I/O (232) (io), 68 I/O (235) (io), 69 I/O (238) (io), 73 I/O (241) (io), 74 I/O (244) (io), 75 I/O (247) (io), 76 I/O (250) (io), 77 I/O (253) (io), 78 I/O, GCK4 (256) (io), 83 I/O (D7) (259) (io), 84 I/O, GCK5 (262) (io), 85 I/O (265) (io), 86 I/O (268) (io), 87 I/O (D6) (271) (io), 88 I/O (274) (io), 92 I/O (277) (io), 93 I/O (280) (io), 94 I/O (D5) (283) (io), 95 I/O (~{CS0}) (286) (io), 96 I/O (289) (io), 97 I/O (292) (io), 98 I/O (D4) (295) (io), 99 I/O (298) (io), 102 I/O (D3) (301) (io), 103 I/O (~{RS}) (304) (io), 104 I/O (307) (io), 105 I/O (310) (io), 106 I/O (D2) (313) (io), 107 I/O (316) (io), 108 I/O (319) (io), 109 I/O (322) (io), 113 I/O (D1) (325) (io), 114 I/O (~{RCLK}, RDY/~{BUSY}) (328) (io), 115 I/O (331) (io), 116 I/O (334) (io), 117 I/O (D0, DIN) (337) (io), 118 I/O, GCK6 (DOUT) (340) (io), 123 I/O (A0, ~{WS}) (2) (io), 124 I/O, GCK7 (A1) (5) (io), 125 I/O (8) (io), 126 I/O (11) (io), 127 I/O (CS1, A2) (14) (io), 128 I/O (A3) (17) (io), 132 I/O (20) (io), 133 I/O (23) (io), 134 I/O (A4) (26) (io), 135 I/O (A5) (29) (io), 137 I/O (A21) (32) (io), 138 I/O (A20) (35) (io), 139 I/O (A6) (38) (io), 140 I/O (A7) (41) (io), 143 I/O (A8) (44) (io), 144 I/O (A9) (47) (io), 145 I/O (A19) (50) (io), 146 I/O (A18) (53) (io), 147 I/O (A10) (56) (io), 148 I/O (A11) (59) (io), 149 I/O (62) (io), 150 I/O (65) (io), 154 I/O (A12) (68) (io), 155 I/O (A13) (71) (io), 156 I/O (74) (io), 157 I/O (77) (io), 158 I/O (A14) (80) (io), 159 I/O, GCK8 (A15) (83) (io)
part B pins: 1 GND (power), 6 I/O, TDI (98) (io), 7 I/O, TCK (101) (io), 8 NC, 9 NC, 10 GND (power), 13 I/O, TMS (110) (io), 19 GND (power), 20 VCC (power), 29 GND (power), 30 NC, 31 NC, 38 O (M1) (170) (io), 39 GND (power), 40 I (M0) (173) (in), 41 VCC (power), 42 I (M2) (174) (in), 49 NC, 50 NC, 51 GND (power), 60 VCC (power), 61 GND (power), 70 GND (power), 71 NC, 72 NC, 79 GND (power), 80 DONE (io), 81 VCC (power), 82 ~{PROGRAM} (in), 89 NC, 90 NC, 91 GND (power), 100 VCC (power), 101 GND (power), 110 GND (power), 111 NC, 112 NC, 119 CCLK (io), 120 VCC (power), 121 O, TDO (0) (hiz), 122 GND (power), 129 NC, 130 NC, 131 GND (power), 136 NC, 141 GND (power), 142 VCC (power), 151 GND (power), 152 NC, 153 NC, 160 VCC (power)

## XC4005XL-09CPQ208C
designator U?
XC4000XL FPGA, 112 I/Os, 208-Pin PQFP, Speed Grade 9, Commercial Grade; Published: 28-Feb-2003; LatestRevisionDate: 13-Apr-2006; LatestRevisionNote: IPC-7351 Footprint Added.; DatasheetVersion: ver1.6, May-1999; PackageVersion: ver1.2, Jun-2004; PackageReference: PQ208; Publisher: Altium Limited; PackageDescription: 208-Pin Plastic Quad Flat Pack (PQ208); Code_JEDEC: MS-029-FA-1; ComponentLink1Description: XC4000XL Datasheet; ComponentLink1URL: http://www.xilinx.com/support/documentation/data_sheets/4000.pdf; ComponentLink2Description: PQ208 Package Drawing; ComponentLink2URL: http://www.xilinx.com/support/documentation/package_specs/pq208.pdf; ComponentLink3Description: XC4000 Documents; ComponentLink3URL: http://www.xilinx.com/support/documentation/xc4000.htm; ComponentLink4Description: Xilinx.com Home; ComponentLink4URL: http://www.xilinx.com
footprint PQ208_N (Shrink QFP, 208-Leads, Body 28x28mm, Pitch 0.5mm, IPC Medium Density)
footprint PQ208_L (Shrink QFP, 208-Leads, Body 28x28mm, Pitch 0.5mm, IPC High Density)
footprint PQ208_M (Shrink QFP, 208-Leads, Body 28x28mm, Pitch 0.5mm, IPC Low Density)
part A pins: 4 I/O, GCK1 (A16) (86) (io), 5 I/O (A17) (89) (io), 6 I/O (92) (io), 7 I/O (95) (io), 15 I/O (104) (io), 16 I/O (107) (io), 18 I/O (113) (io), 21 I/O (116) (io), 22 I/O (119) (io), 23 I/O (122) (io), 24 I/O (125) (io), 27 I/O (128) (io), 28 I/O (131) (io), 29 I/O (134) (io), 30 I/O (137) (io), 33 I/O (140) (io), 34 I/O (143) (io), 35 I/O (146) (io), 36 I/O (149) (io), 42 I/O (152) (io), 43 I/O (155) (io), 44 I/O (158) (io), 45 I/O (161) (io), 46 I/O (164) (io), 47 I/O, GCK2 (167) (io), 57 I/O, GCK3 (175) (io), 58 I/O (HDC) (178) (io), 59 I/O (181) (io), 60 I/O (184) (io), 61 I/O (187) (io), 62 I/O (~{LDC}) (190) (io), 68 I/O (193) (io), 69 I/O (196) (io), 70 I/O (199) (io), 71 I/O (202) (io), 74 I/O (205) (io), 75 I/O (208) (io), 76 I/O (211) (io), 77 I/O (~{INIT}) (214) (io), 80 I/O (217) (io), 81 I/O (220) (io), 82 I/O (223) (io), 83 I/O (226) (io), 86 I/O (229) (io), 87 I/O (232) (io), 88 I/O (235) (io), 89 I/O (238) (io), 95 I/O (241) (io), 96 I/O (244) (io), 97 I/O (247) (io), 98 I/O (250) (io), 99 I/O (253) (io), 100 I/O, GCK4 (256) (io), 109 I/O (D7) (259) (io), 110 I/O, GCK5 (262) (io), 111 I/O (265) (io), 112 I/O (268) (io), 113 I/O (D6) (271) (io), 114 I/O (274) (io), 120 I/O (277) (io), 121 I/O (280) (io), 122 I/O (D5) (283) (io), 123 I/O (~{CS0}) (286) (io), 126 I/O (289) (io), 127 I/O (292) (io), 128 I/O (D4) (295) (io), 129 I/O (298) (io), 132 I/O (D3) (301) (io), 133 I/O (~{RS}) (304) (io), 134 I/O (307) (io), 135 I/O (310) (io), 138 I/O (D2) (313) (io), 139 I/O (316) (io), 140 I/O (319) (io), 141 I/O (322) (io), 147 I/O (D1) (325) (io), 148 I/O (~{RCLK}, RDY/~{BUSY}) (328) (io), 149 I/O (331) (io), 150 I/O (334) (io), 151 I/O (D0, DIN) (337) (io), 152 I/O, GCK6 (DOUT) (340) (io), 161 I/O (A0, ~{WS}) (2) (io), 162 I/O, GCK7 (A1) (5) (io), 163 I/O (8) (io), 164 I/O (11) (io), 165 I/O (CS1, A2) (14) (io), 166 I/O (A3) (17) (io), 172 I/O (20) (io), 173 I/O (23) (io), 174 I/O (A4) (26) (io), 175 I/O (A5) (29) (io), 178 I/O (A21) (32) (io), 179 I/O (A20) (35) (io), 180 I/O (A6) (38) (io), 181 I/O (A7) (41) (io), 184 I/O (A8) (44) (io), 185 I/O (A9) (47) (io), 186 I/O (A19) (50) (io), 187 I/O (A18) (53) (io), 190 I/O (A10) (56) (io), 191 I/O (A11) (59) (io), 192 I/O (62) (io), 193 I/O (65) (io), 199 I/O (A12) (68) (io), 200 I/O (A13) (71) (io), 201 I/O (74) (io), 202 I/O (77) (io), 203 I/O (A14) (80) (io), 204 I/O, GCK8 (A15) (83) (io)
part B pins: 2 GND (power), 8 I/O, TDI (98) (io), 9 I/O, TCK (101) (io), 14 GND (power), 17 I/O, TMS (110) (io), 25 GND (power), 26 VCC (power), 37 GND (power), 48 O (M1) (170) (io), 49 GND (power), 50 I (M0) (173) (in), 55 VCC (power), 56 I (M2) (174) (in), 67 GND (power), 78 VCC (power), 79 GND (power), 90 GND (power), 101 GND (power), 103 DONE (io), 106 VCC (power), 108 ~{PROGRAM} (in), 119 GND (power), 130 VCC (power), 131 GND (power), 142 GND (power), 153 CCLK (io), 154 VCC (power), 159 O, TDO (0) (hiz), 160 GND (power), 171 GND (power), 182 GND (power), 183 VCC (power), 194 GND (power), 205 VCC (power)
part C pins: 1 NC, 3 NC, 10 NC, 11 NC, 12 NC, 13 NC, 19 NC, 20 NC, 31 NC, 32 NC, 38 NC, 39 NC, 40 NC, 41 NC, 51 NC, 52 NC, 53 NC, 54 NC, 63 NC, 64 NC, 65 NC, 66 NC, 72 NC, 73 NC, 84 NC, 85 NC, 91 NC, 92 NC, 93 NC, 94 NC, 102 NC, 104 NC, 105 NC, 107 NC, 115 NC, 116 NC, 117 NC, 118 NC, 124 NC, 125 NC, 136 NC, 137 NC, 143 NC, 144 NC, 145 NC, 146 NC, 155 NC, 156 NC, 157 NC, 158 NC, 167 NC, 168 NC, 169 NC, 170 NC, 176 NC, 177 NC, 188 NC, 189 NC, 195 NC, 196 NC, 197 NC, 198 NC, 206 NC, 207 NC, 208 NC

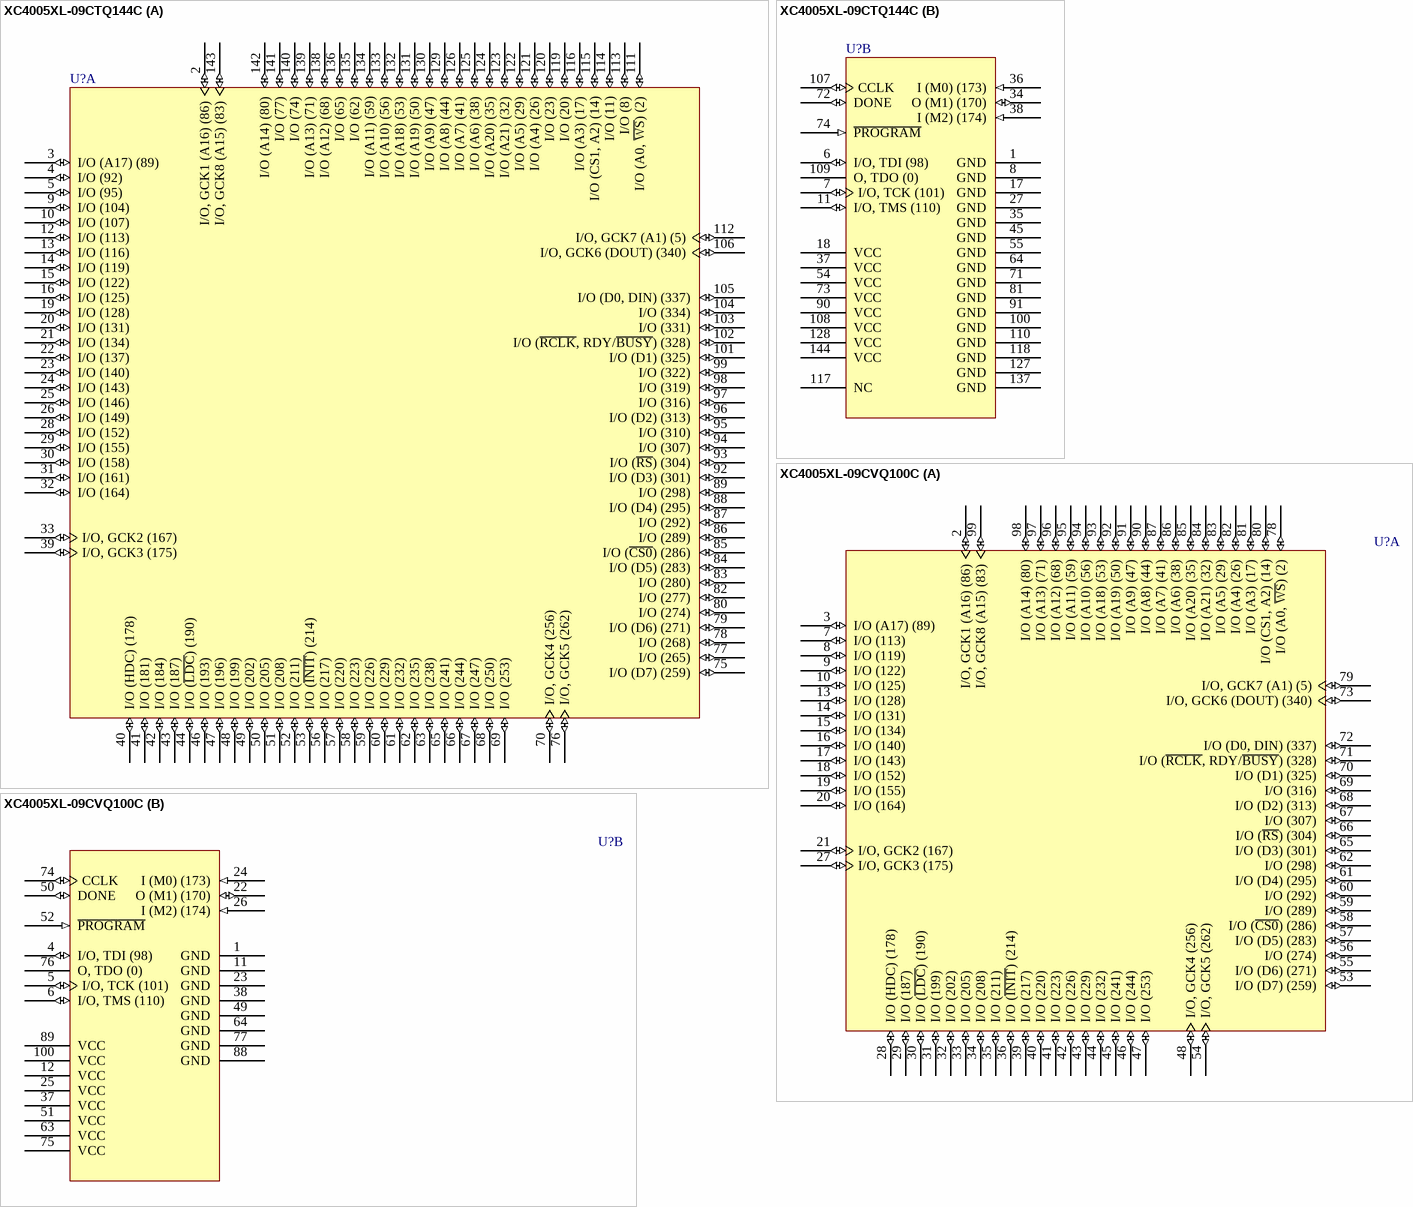
[diagram p26: symbols XC4005XL-09CTQ144C to XC4005XL-09CVQ100C]

## XC4005XL-09CTQ144C
designator U?
XC4000XL FPGA, 112 I/Os, 144-Pin TQFP, Speed Grade 9, Commercial Grade; Published: 28-Feb-2003; LatestRevisionDate: 13-Apr-2006; LatestRevisionNote: IPC-7351 Footprint Added.; DatasheetVersion: ver1.6, May-1999; PackageVersion: ver1.2, Jun-2004; PackageReference: TQ144; Publisher: Altium Limited; PackageDescription: 144-Pin Thin Quad Flat Pack (TQ144); Code_JEDEC: MS-026-BFB; ComponentLink1Description: XC4000XL Datasheet; ComponentLink1URL: http://www.xilinx.com/support/documentation/data_sheets/4000.pdf; ComponentLink2Description: TQ144 Package Drawing; ComponentLink2URL: http://www.xilinx.com/support/documentation/package_specs/tq144.pdf; ComponentLink3Description: XC4000 Documents; ComponentLink3URL: http://www.xilinx.com/support/documentation/xc4000.htm; ComponentLink4Description: Xilinx.com Home; ComponentLink4URL: http://www.xilinx.com
footprint TQ144_N (Thin QFP, 144-Leads, Body 20x20mm, Pitch 0.5mm, IPC Medium Density)
footprint TQ144_L (Thin QFP, 144-Leads, Body 20x20mm, Pitch 0.5mm, IPC High Density)
footprint TQ144_M (Thin QFP, 144-Leads, Body 20x20mm, Pitch 0.5mm, IPC Low Density)
part A pins: 2 I/O, GCK1 (A16) (86) (io), 3 I/O (A17) (89) (io), 4 I/O (92) (io), 5 I/O (95) (io), 9 I/O (104) (io), 10 I/O (107) (io), 12 I/O (113) (io), 13 I/O (116) (io), 14 I/O (119) (io), 15 I/O (122) (io), 16 I/O (125) (io), 19 I/O (128) (io), 20 I/O (131) (io), 21 I/O (134) (io), 22 I/O (137) (io), 23 I/O (140) (io), 24 I/O (143) (io), 25 I/O (146) (io), 26 I/O (149) (io), 28 I/O (152) (io), 29 I/O (155) (io), 30 I/O (158) (io), 31 I/O (161) (io), 32 I/O (164) (io), 33 I/O, GCK2 (167) (io), 39 I/O, GCK3 (175) (io), 40 I/O (HDC) (178) (io), 41 I/O (181) (io), 42 I/O (184) (io), 43 I/O (187) (io), 44 I/O (~{LDC}) (190) (io), 46 I/O (193) (io), 47 I/O (196) (io), 48 I/O (199) (io), 49 I/O (202) (io), 50 I/O (205) (io), 51 I/O (208) (io), 52 I/O (211) (io), 53 I/O (~{INIT}) (214) (io), 56 I/O (217) (io), 57 I/O (220) (io), 58 I/O (223) (io), 59 I/O (226) (io), 60 I/O (229) (io), 61 I/O (232) (io), 62 I/O (235) (io), 63 I/O (238) (io), 65 I/O (241) (io), 66 I/O (244) (io), 67 I/O (247) (io), 68 I/O (250) (io), 69 I/O (253) (io), 70 I/O, GCK4 (256) (io), 75 I/O (D7) (259) (io), 76 I/O, GCK5 (262) (io), 77 I/O (265) (io), 78 I/O (268) (io), 79 I/O (D6) (271) (io), 80 I/O (274) (io), 82 I/O (277) (io), 83 I/O (280) (io), 84 I/O (D5) (283) (io), 85 I/O (~{CS0}) (286) (io), 86 I/O (289) (io), 87 I/O (292) (io), 88 I/O (D4) (295) (io), 89 I/O (298) (io), 92 I/O (D3) (301) (io), 93 I/O (~{RS}) (304) (io), 94 I/O (307) (io), 95 I/O (310) (io), 96 I/O (D2) (313) (io), 97 I/O (316) (io), 98 I/O (319) (io), 99 I/O (322) (io), 101 I/O (D1) (325) (io), 102 I/O (~{RCLK}, RDY/~{BUSY}) (328) (io), 103 I/O (331) (io), 104 I/O (334) (io), 105 I/O (D0, DIN) (337) (io), 106 I/O, GCK6 (DOUT) (340) (io), 111 I/O (A0, ~{WS}) (2) (io), 112 I/O, GCK7 (A1) (5) (io), 113 I/O (8) (io), 114 I/O (11) (io), 115 I/O (CS1, A2) (14) (io), 116 I/O (A3) (17) (io), 119 I/O (20) (io), 120 I/O (23) (io), 121 I/O (A4) (26) (io), 122 I/O (A5) (29) (io), 123 I/O (A21) (32) (io), 124 I/O (A20) (35) (io), 125 I/O (A6) (38) (io), 126 I/O (A7) (41) (io), 129 I/O (A8) (44) (io), 130 I/O (A9) (47) (io), 131 I/O (A19) (50) (io), 132 I/O (A18) (53) (io), 133 I/O (A10) (56) (io), 134 I/O (A11) (59) (io), 135 I/O (62) (io), 136 I/O (65) (io), 138 I/O (A12) (68) (io), 139 I/O (A13) (71) (io), 140 I/O (74) (io), 141 I/O (77) (io), 142 I/O (A14) (80) (io), 143 I/O, GCK8 (A15) (83) (io)
part B pins: 1 GND (power), 6 I/O, TDI (98) (io), 7 I/O, TCK (101) (io), 8 GND (power), 11 I/O, TMS (110) (io), 17 GND (power), 18 VCC (power), 27 GND (power), 34 O (M1) (170) (io), 35 GND (power), 36 I (M0) (173) (in), 37 VCC (power), 38 I (M2) (174) (in), 45 GND (power), 54 VCC (power), 55 GND (power), 64 GND (power), 71 GND (power), 72 DONE (io), 73 VCC (power), 74 ~{PROGRAM} (in), 81 GND (power), 90 VCC (power), 91 GND (power), 100 GND (power), 107 CCLK (io), 108 VCC (power), 109 O, TDO (0) (hiz), 110 GND (power), 117 NC, 118 GND (power), 127 GND (power), 128 VCC (power), 137 GND (power), 144 VCC (power)

## XC4005XL-09CVQ100C
designator U?
XC4000XL FPGA, 77 I/Os, 100-Pin VQFP, Speed Grade 9, Commercial Grade; Published: 28-Feb-2003; LatestRevisionDate: 13-Apr-2006; LatestRevisionNote: IPC-7351 Footprint Added.; DatasheetVersion: ver1.6, May-1999; PackageVersion: ver1.2.1, Feb-2007; PackageReference: VQ100; Publisher: Altium Limited; PackageDescription: 100-Pin Very Thin Quad Flat Pack (VQ100); Code_JEDEC: MS-026-AED; ComponentLink1Description: XC4000XL Datasheet; ComponentLink1URL: http://www.xilinx.com/support/documentation/data_sheets/4000.pdf; ComponentLink2Description: VQ100 Package Drawing; ComponentLink2URL: http://www.xilinx.com/support/documentation/package_specs/vq100.pdf; ComponentLink3Description: XC4000 Documents; ComponentLink3URL: http://www.xilinx.com/support/documentation/xc4000.htm; ComponentLink4Description: Xilinx.com Home; ComponentLink4URL: http://www.xilinx.com
footprint VQ100_N (Thin QFP, 100-Leads, Body 14x14mm, Pitch 0.5mm, IPC Medium Density)
footprint VQ100_L (Thin QFP, 100-Leads, Body 14x14mm, Pitch 0.5mm, IPC High Density)
footprint VQ100_M (Thin QFP, 100-Leads, Body 14x14mm, Pitch 0.5mm, IPC Low Density)
part A pins: 2 I/O, GCK1 (A16) (86) (io), 3 I/O (A17) (89) (io), 7 I/O (113) (io), 8 I/O (119) (io), 9 I/O (122) (io), 10 I/O (125) (io), 13 I/O (128) (io), 14 I/O (131) (io), 15 I/O (134) (io), 16 I/O (140) (io), 17 I/O (143) (io), 18 I/O (152) (io), 19 I/O (155) (io), 20 I/O (164) (io), 21 I/O, GCK2 (167) (io), 27 I/O, GCK3 (175) (io), 28 I/O (HDC) (178) (io), 29 I/O (187) (io), 30 I/O (~{LDC}) (190) (io), 31 I/O (199) (io), 32 I/O (202) (io), 33 I/O (205) (io), 34 I/O (208) (io), 35 I/O (211) (io), 36 I/O (~{INIT}) (214) (io), 39 I/O (217) (io), 40 I/O (220) (io), 41 I/O (223) (io), 42 I/O (226) (io), 43 I/O (229) (io), 44 I/O (232) (io), 45 I/O (241) (io), 46 I/O (244) (io), 47 I/O (253) (io), 48 I/O, GCK4 (256) (io), 53 I/O (D7) (259) (io), 54 I/O, GCK5 (262) (io), 55 I/O (D6) (271) (io), 56 I/O (274) (io), 57 I/O (D5) (283) (io), 58 I/O (~{CS0}) (286) (io), 59 I/O (289) (io), 60 I/O (292) (io), 61 I/O (D4) (295) (io), 62 I/O (298) (io), 65 I/O (D3) (301) (io), 66 I/O (~{RS}) (304) (io), 67 I/O (307) (io), 68 I/O (D2) (313) (io), 69 I/O (316) (io), 70 I/O (D1) (325) (io), 71 I/O (~{RCLK}, RDY/~{BUSY}) (328) (io), 72 I/O (D0, DIN) (337) (io), 73 I/O, GCK6 (DOUT) (340) (io), 78 I/O (A0, ~{WS}) (2) (io), 79 I/O, GCK7 (A1) (5) (io), 80 I/O (CS1, A2) (14) (io), 81 I/O (A3) (17) (io), 82 I/O (A4) (26) (io), 83 I/O (A5) (29) (io), 84 I/O (A21) (32) (io), 85 I/O (A20) (35) (io), 86 I/O (A6) (38) (io), 87 I/O (A7) (41) (io), 90 I/O (A8) (44) (io), 91 I/O (A9) (47) (io), 92 I/O (A19) (50) (io), 93 I/O (A18) (53) (io), 94 I/O (A10) (56) (io), 95 I/O (A11) (59) (io), 96 I/O (A12) (68) (io), 97 I/O (A13) (71) (io), 98 I/O (A14) (80) (io), 99 I/O, GCK8 (A15) (83) (io)
part B pins: 1 GND (power), 4 I/O, TDI (98) (io), 5 I/O, TCK (101) (io), 6 I/O, TMS (110) (io), 11 GND (power), 12 VCC (power), 22 O (M1) (170) (io), 23 GND (power), 24 I (M0) (173) (in), 25 VCC (power), 26 I (M2) (174) (in), 37 VCC (power), 38 GND (power), 49 GND (power), 50 DONE (io), 51 VCC (power), 52 ~{PROGRAM} (in), 63 VCC (power), 64 GND (power), 74 CCLK (io), 75 VCC (power), 76 O, TDO (0) (hiz), 77 GND (power), 88 GND (power), 89 VCC (power), 100 VCC (power)

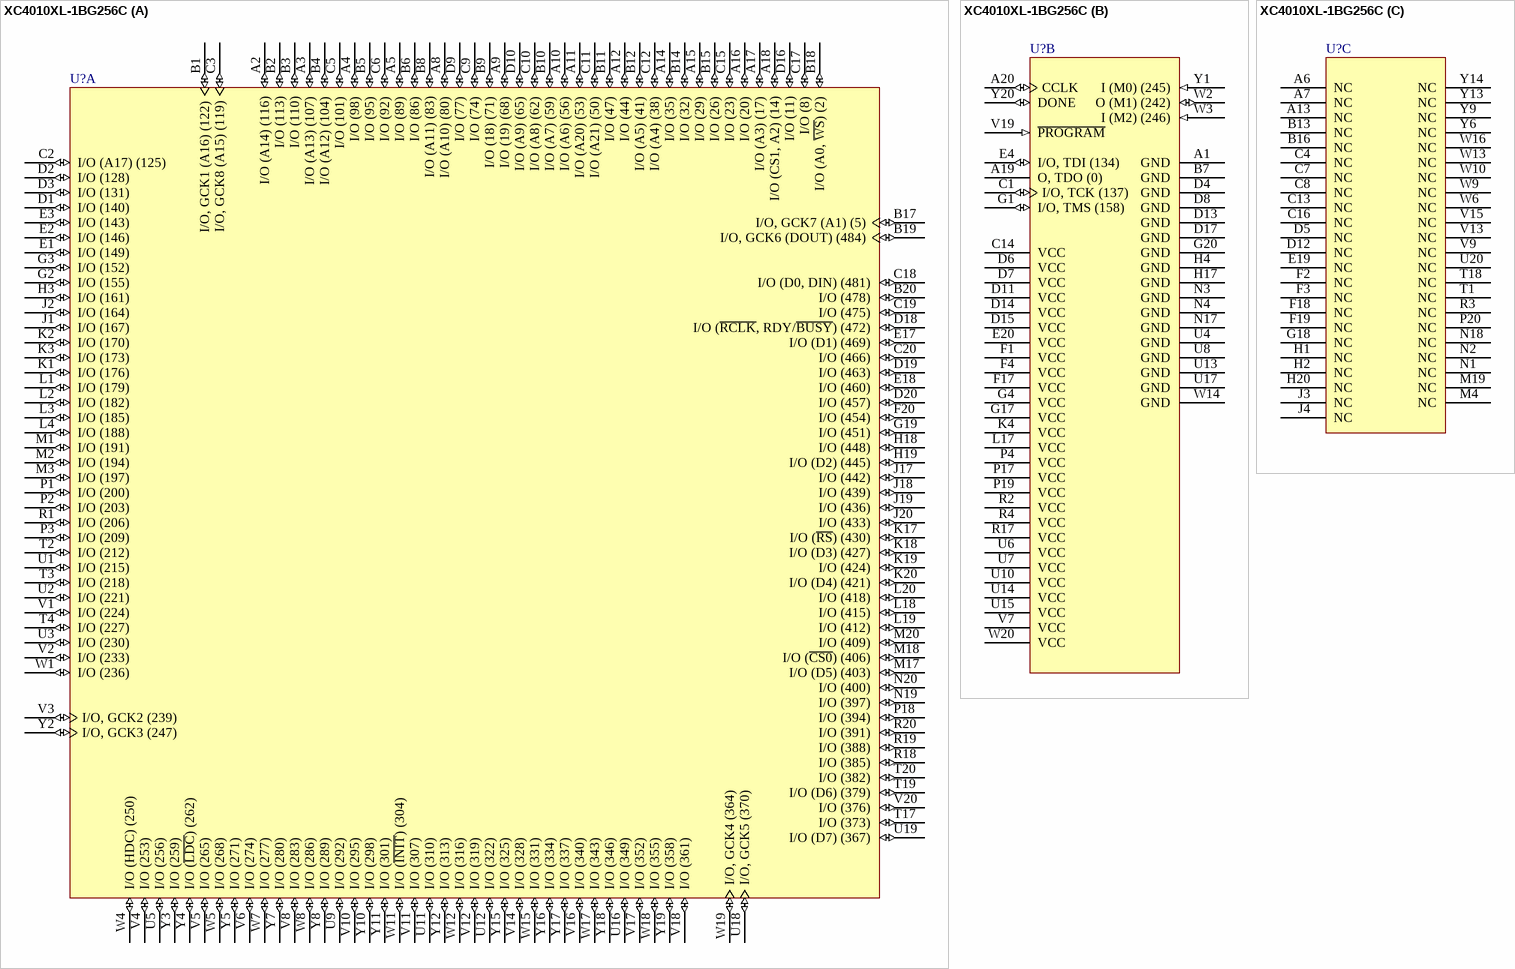
[diagram p27: symbol XC4010XL-1BG256C]

## XC4010XL-1BG256C
designator U?
XC4000XL FPGA, 160 I/Os, 256-Ball BGA, Speed Grade 1, Commercial Grade; Published: 28-Feb-2003; LatestRevisionDate: 13-Apr-2006; LatestRevisionNote: IPC-7351 Footprint Added.; DatasheetVersion: ver1.6, May-1999; PackageVersion: ver1.2, Apr-2006; PackageReference: BG256; Publisher: Altium Limited; PackageDescription: 256-Ball Plastic Ball Grid Array (BG256); Supplier 1: Digi-Key; Supplier Part Number 1: XC4010XL-1BG256C-ND; Code_JEDEC: MS-034-BAL-2; ComponentLink1Description: XC4000XL Datasheet; ComponentLink1URL: http://www.xilinx.com/support/documentation/data_sheets/4000.pdf; ComponentLink2Description: BG256 Package Drawing; ComponentLink2URL: http://www.xilinx.com/support/documentation/package_specs/bg256.pdf; ComponentLink3Description: XC4000 Documents; ComponentLink3URL: http://www.xilinx.com/support/documentation/xc4000.htm; ComponentLink4Description: Xilinx.com Home; ComponentLink4URL: http://www.xilinx.com
footprint BG256 (BGA, 256-Leads, Body 27x27mm, Pitch 1.27mm)
part A pins: A2 I/O (A14) (116) (io), A3 I/O (A13) (107) (io), A4 I/O (98) (io), A5 I/O (89) (io), A8 I/O (A10) (80) (io), A9 I/O (19) (68) (io), A10 I/O (A6) (56) (io), A11 I/O (A20) (53) (io), A12 I/O (44) (io), A14 I/O (35) (io), A15 I/O (29) (io), A16 I/O (20) (io), A17 I/O (A3) (17) (io), A18 I/O (CS1, A2) (14) (io), B1 I/O, GCK1 (A16) (122) (io), B2 I/O (113) (io), B3 I/O (110) (io), B4 I/O (A12) (104) (io), B5 I/O (95) (io), B6 I/O (86) (io), B8 I/O (A11) (83) (io), B9 I/O (18) (71) (io), B10 I/O (A7) (59) (io), B11 I/O (47) (io), B12 I/O (A5) (41) (io), B14 I/O (32) (io), B15 I/O (26) (io), B17 I/O, GCK7 (A1) (5) (io), B18 I/O (A0, ~{WS}) (2) (io), B19 I/O, GCK6 (DOUT) (484) (io), B20 I/O (478) (io), C2 I/O (A17) (125) (io), C3 I/O, GCK8 (A15) (119) (io), C5 I/O (101) (io), C6 I/O (92) (io), C9 I/O (74) (io), C10 I/O (A8) (62) (io), C11 I/O (A21) (50) (io), C12 I/O (A4) (38) (io), C15 I/O (23) (io), C17 I/O (8) (io), C18 I/O (D0, DIN) (481) (io), C19 I/O (475) (io), C20 I/O (466) (io), D1 I/O (140) (io), D2 I/O (128) (io), D3 I/O (131) (io), D9 I/O (77) (io), D10 I/O (A9) (65) (io), D16 I/O (11) (io), D18 I/O (~{RCLK}, RDY/~{BUSY}) (472) (io), D19 I/O (463) (io), D20 I/O (457) (io), E1 I/O (149) (io), E2 I/O (146) (io), E3 I/O (143) (io), E17 I/O (D1) (469) (io), E18 I/O (460) (io), F20 I/O (454) (io), G2 I/O (155) (io), G3 I/O (152) (io), G19 I/O (451) (io), H3 I/O (161) (io), H18 I/O (448) (io), H19 I/O (D2) (445) (io), J1 I/O (167) (io), J2 I/O (164) (io), J17 I/O (442) (io), J18 I/O (439) (io), J19 I/O (436) (io), J20 I/O (433) (io), K1 I/O (176) (io), K2 I/O (170) (io), K3 I/O (173) (io), K17 I/O (~{RS}) (430) (io), K18 I/O (D3) (427) (io), K19 I/O (424) (io), K20 I/O (D4) (421) (io), L1 I/O (179) (io), L2 I/O (182) (io), L3 I/O (185) (io), L4 I/O (188) (io), L18 I/O (415) (io), L19 I/O (412) (io), L20 I/O (418) (io), M1 I/O (191) (io), M2 I/O (194) (io), M3 I/O (197) (io), M17 I/O (D5) (403) (io), M18 I/O (~{CS0}) (406) (io), M20 I/O (409) (io), N19 I/O (397) (io), N20 I/O (400) (io), P1 I/O (200) (io), P2 I/O (203) (io), P3 I/O (209) (io), P18 I/O (394) (io), R1 I/O (206) (io), R18 I/O (385) (io), R19 I/O (388) (io), R20 I/O (391) (io), T2 I/O (212) (io), T3 I/O (218) (io), T4 I/O (227) (io), T17 I/O (373) (io), T19 I/O (D6) (379) (io), T20 I/O (382) (io), U1 I/O (215) (io), U2 I/O (221) (io), U3 I/O (230) (io), U5 I/O (256) (io), U9 I/O (292) (io), U11 I/O (310) (io), U12 I/O (322) (io), U16 I/O (349) (io), U18 I/O, GCK5 (370) (io), U19 I/O (D7) (367) (io), V1 I/O (224) (io), V2 I/O (233) (io), V3 I/O, GCK2 (239) (io), V4 I/O (253) (io), V5 I/O (265) (io), V6 I/O (274) (io), V8 I/O (283) (io), V10 I/O (295) (io), V11 I/O (307) (io), V12 I/O (319) (io), V14 I/O (328) (io), V16 I/O (340) (io), V17 I/O (352) (io), V18 I/O (361) (io), V20 I/O (376) (io), W1 I/O (236) (io), W4 I/O (HDC) (250) (io), W5 I/O (268) (io), W7 I/O (277) (io), W8 I/O (286) (io), W11 I/O (~{INIT}) (304) (io), W12 I/O (316) (io), W15 I/O (331) (io), W17 I/O (343) (io), W18 I/O (355) (io), W19 I/O, GCK4 (364) (io), Y2 I/O, GCK3 (247) (io), Y3 I/O (259) (io), Y4 I/O (~{LDC}) (262) (io), Y5 I/O (271) (io), Y7 I/O (280) (io), Y8 I/O (289) (io), Y10 I/O (298) (io), Y11 I/O (301) (io), Y12 I/O (313) (io), Y15 I/O (325) (io), Y16 I/O (334) (io), Y17 I/O (337) (io), Y18 I/O (346) (io), Y19 I/O (358) (io)
part B pins: A1 GND (power), A19 O, TDO (0) (hiz), A20 CCLK (io), B7 GND (power), C1 I/O, TCK (137) (io), C14 VCC (power), D4 GND (power), D6 VCC (power), D7 VCC (power), D8 GND (power), D11 VCC (power), D13 GND (power), D14 VCC (power), D15 VCC (power), D17 GND (power), E4 I/O, TDI (134) (io), E20 VCC (power), F1 VCC (power), F4 VCC (power), F17 VCC (power), G1 I/O, TMS (158) (io), G4 VCC (power), G17 VCC (power), G20 GND (power), H4 GND (power), H17 GND (power), K4 VCC (power), L17 VCC (power), N3 GND (power), N4 GND (power), N17 GND (power), P4 VCC (power), P17 VCC (power), P19 VCC (power), R2 VCC (power), R4 VCC (power), R17 VCC (power), U4 GND (power), U6 VCC (power), U7 VCC (power), U8 GND (power), U10 VCC (power), U13 GND (power), U14 VCC (power), U15 VCC (power), U17 GND (power), V7 VCC (power), V19 ~{PROGRAM} (in), W2 O (M1) (242) (io), W3 I (M2) (246) (in), W14 GND (power), W20 VCC (power), Y1 I (M0) (245) (in), Y20 DONE (io)
part C pins: A6 NC, A7 NC, A13 NC, B13 NC, B16 NC, C4 NC, C7 NC, C8 NC, C13 NC, C16 NC, D5 NC, D12 NC, E19 NC, F2 NC, F3 NC, F18 NC, F19 NC, G18 NC, H1 NC, H2 NC, H20 NC, J3 NC, J4 NC, M4 NC, M19 NC, N1 NC, N2 NC, N18 NC, P20 NC, R3 NC, T1 NC, T18 NC, U20 NC, V9 NC, V13 NC, V15 NC, W6 NC, W9 NC, W10 NC, W13 NC, W16 NC, Y6 NC, Y9 NC, Y13 NC, Y14 NC

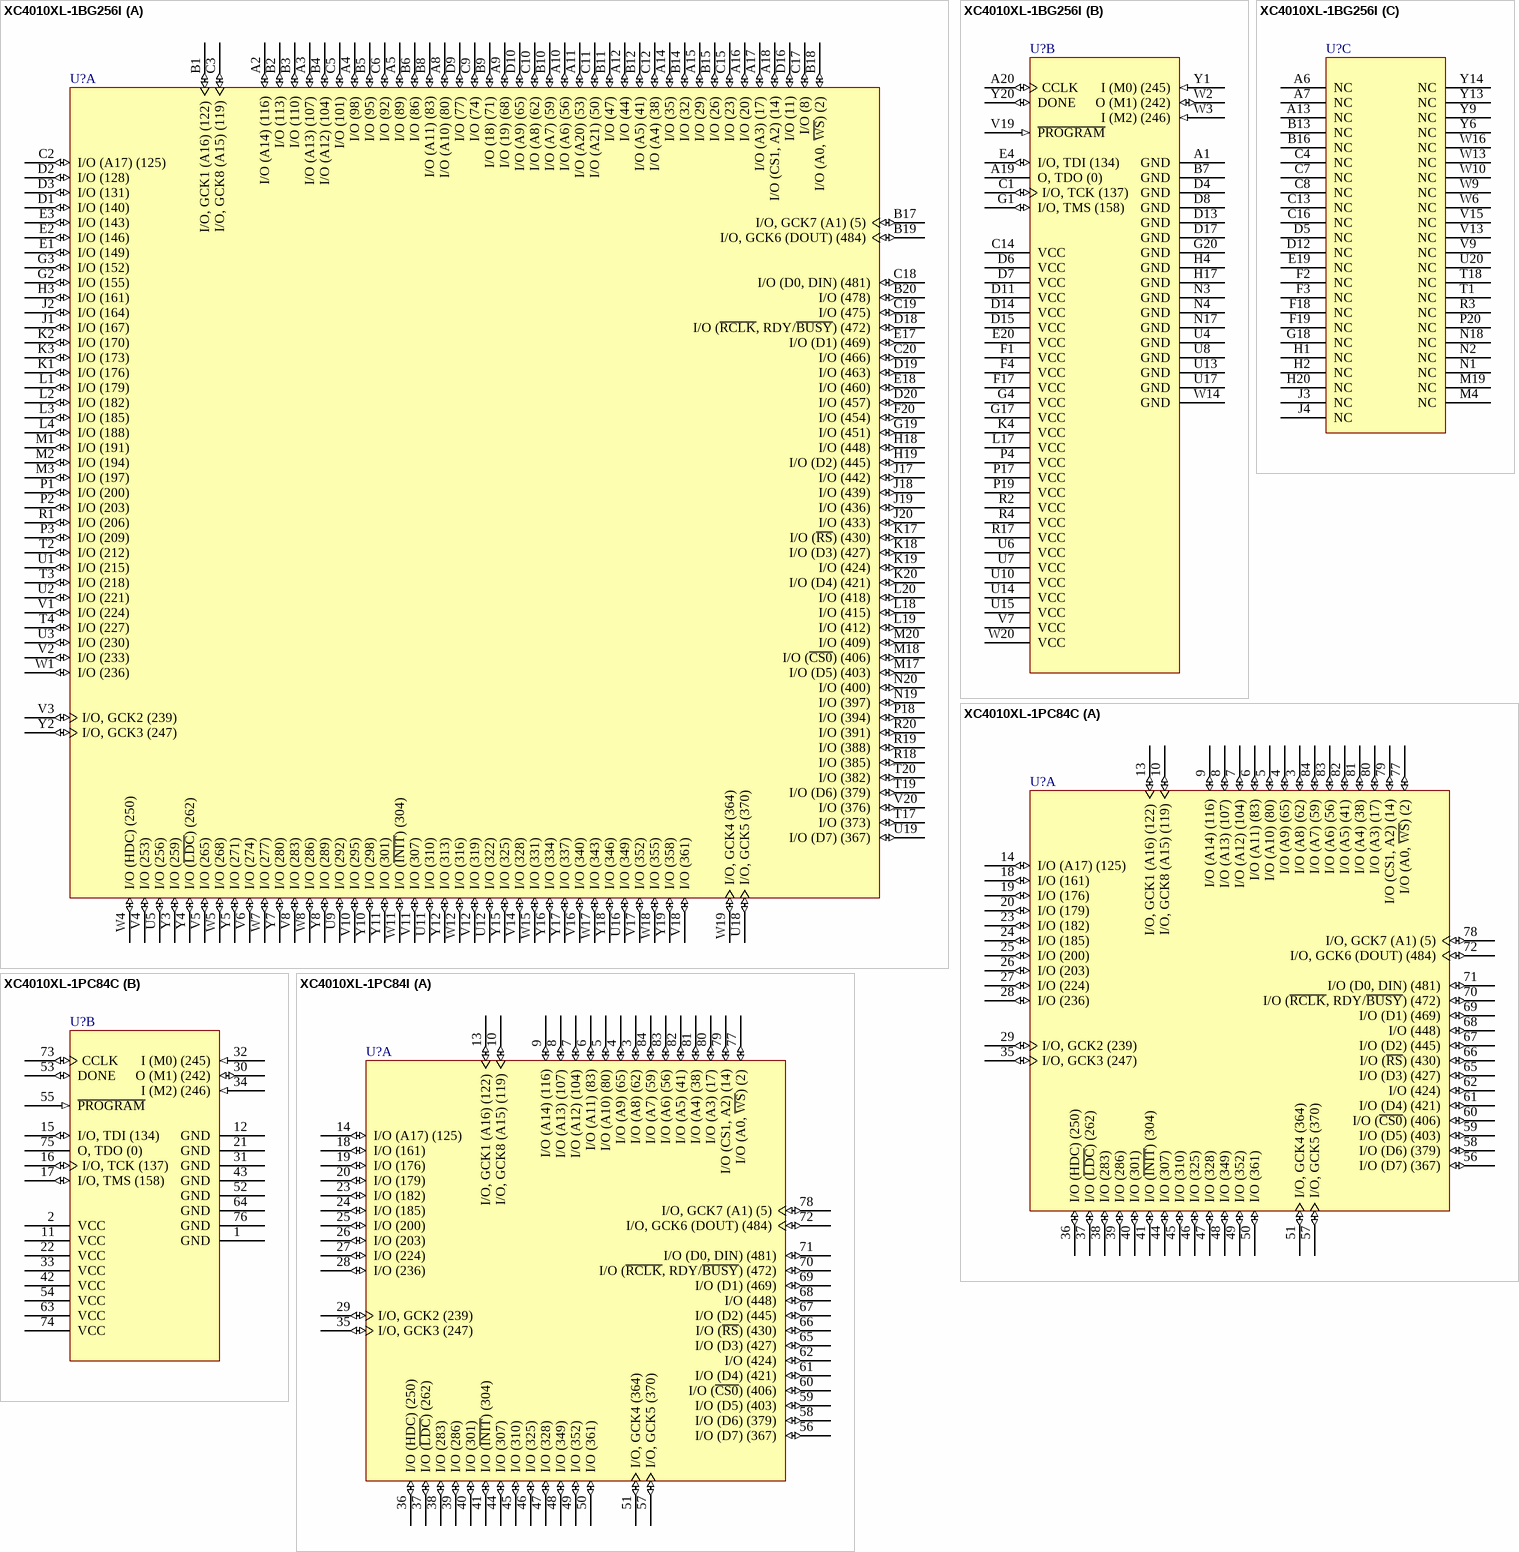
[diagram p28: symbols XC4010XL-1BG256I to XC4010XL-1PC84I]

## XC4010XL-1BG256I
designator U?
XC4000XL FPGA, 160 I/Os, 256-Ball BGA, Speed Grade 1, Industrial Grade; Published: 28-Feb-2003; LatestRevisionDate: 13-Apr-2006; LatestRevisionNote: IPC-7351 Footprint Added.; DatasheetVersion: ver1.6, May-1999; PackageVersion: ver1.2, Apr-2006; PackageReference: BG256; Publisher: Altium Limited; PackageDescription: 256-Ball Plastic Ball Grid Array (BG256); Supplier 1: Digi-Key; Supplier Part Number 1: XC4010XL-1BG256I-ND; Code_JEDEC: MS-034-BAL-2; ComponentLink1Description: XC4000XL Datasheet; ComponentLink1URL: http://www.xilinx.com/support/documentation/data_sheets/4000.pdf; ComponentLink2Description: BG256 Package Drawing; ComponentLink2URL: http://www.xilinx.com/support/documentation/package_specs/bg256.pdf; ComponentLink3Description: XC4000 Documents; ComponentLink3URL: http://www.xilinx.com/support/documentation/xc4000.htm; ComponentLink4Description: Xilinx.com Home; ComponentLink4URL: http://www.xilinx.com
footprint BG256 (BGA, 256-Leads, Body 27x27mm, Pitch 1.27mm)
part A pins: A2 I/O (A14) (116) (io), A3 I/O (A13) (107) (io), A4 I/O (98) (io), A5 I/O (89) (io), A8 I/O (A10) (80) (io), A9 I/O (19) (68) (io), A10 I/O (A6) (56) (io), A11 I/O (A20) (53) (io), A12 I/O (44) (io), A14 I/O (35) (io), A15 I/O (29) (io), A16 I/O (20) (io), A17 I/O (A3) (17) (io), A18 I/O (CS1, A2) (14) (io), B1 I/O, GCK1 (A16) (122) (io), B2 I/O (113) (io), B3 I/O (110) (io), B4 I/O (A12) (104) (io), B5 I/O (95) (io), B6 I/O (86) (io), B8 I/O (A11) (83) (io), B9 I/O (18) (71) (io), B10 I/O (A7) (59) (io), B11 I/O (47) (io), B12 I/O (A5) (41) (io), B14 I/O (32) (io), B15 I/O (26) (io), B17 I/O, GCK7 (A1) (5) (io), B18 I/O (A0, ~{WS}) (2) (io), B19 I/O, GCK6 (DOUT) (484) (io), B20 I/O (478) (io), C2 I/O (A17) (125) (io), C3 I/O, GCK8 (A15) (119) (io), C5 I/O (101) (io), C6 I/O (92) (io), C9 I/O (74) (io), C10 I/O (A8) (62) (io), C11 I/O (A21) (50) (io), C12 I/O (A4) (38) (io), C15 I/O (23) (io), C17 I/O (8) (io), C18 I/O (D0, DIN) (481) (io), C19 I/O (475) (io), C20 I/O (466) (io), D1 I/O (140) (io), D2 I/O (128) (io), D3 I/O (131) (io), D9 I/O (77) (io), D10 I/O (A9) (65) (io), D16 I/O (11) (io), D18 I/O (~{RCLK}, RDY/~{BUSY}) (472) (io), D19 I/O (463) (io), D20 I/O (457) (io), E1 I/O (149) (io), E2 I/O (146) (io), E3 I/O (143) (io), E17 I/O (D1) (469) (io), E18 I/O (460) (io), F20 I/O (454) (io), G2 I/O (155) (io), G3 I/O (152) (io), G19 I/O (451) (io), H3 I/O (161) (io), H18 I/O (448) (io), H19 I/O (D2) (445) (io), J1 I/O (167) (io), J2 I/O (164) (io), J17 I/O (442) (io), J18 I/O (439) (io), J19 I/O (436) (io), J20 I/O (433) (io), K1 I/O (176) (io), K2 I/O (170) (io), K3 I/O (173) (io), K17 I/O (~{RS}) (430) (io), K18 I/O (D3) (427) (io), K19 I/O (424) (io), K20 I/O (D4) (421) (io), L1 I/O (179) (io), L2 I/O (182) (io), L3 I/O (185) (io), L4 I/O (188) (io), L18 I/O (415) (io), L19 I/O (412) (io), L20 I/O (418) (io), M1 I/O (191) (io), M2 I/O (194) (io), M3 I/O (197) (io), M17 I/O (D5) (403) (io), M18 I/O (~{CS0}) (406) (io), M20 I/O (409) (io), N19 I/O (397) (io), N20 I/O (400) (io), P1 I/O (200) (io), P2 I/O (203) (io), P3 I/O (209) (io), P18 I/O (394) (io), R1 I/O (206) (io), R18 I/O (385) (io), R19 I/O (388) (io), R20 I/O (391) (io), T2 I/O (212) (io), T3 I/O (218) (io), T4 I/O (227) (io), T17 I/O (373) (io), T19 I/O (D6) (379) (io), T20 I/O (382) (io), U1 I/O (215) (io), U2 I/O (221) (io), U3 I/O (230) (io), U5 I/O (256) (io), U9 I/O (292) (io), U11 I/O (310) (io), U12 I/O (322) (io), U16 I/O (349) (io), U18 I/O, GCK5 (370) (io), U19 I/O (D7) (367) (io), V1 I/O (224) (io), V2 I/O (233) (io), V3 I/O, GCK2 (239) (io), V4 I/O (253) (io), V5 I/O (265) (io), V6 I/O (274) (io), V8 I/O (283) (io), V10 I/O (295) (io), V11 I/O (307) (io), V12 I/O (319) (io), V14 I/O (328) (io), V16 I/O (340) (io), V17 I/O (352) (io), V18 I/O (361) (io), V20 I/O (376) (io), W1 I/O (236) (io), W4 I/O (HDC) (250) (io), W5 I/O (268) (io), W7 I/O (277) (io), W8 I/O (286) (io), W11 I/O (~{INIT}) (304) (io), W12 I/O (316) (io), W15 I/O (331) (io), W17 I/O (343) (io), W18 I/O (355) (io), W19 I/O, GCK4 (364) (io), Y2 I/O, GCK3 (247) (io), Y3 I/O (259) (io), Y4 I/O (~{LDC}) (262) (io), Y5 I/O (271) (io), Y7 I/O (280) (io), Y8 I/O (289) (io), Y10 I/O (298) (io), Y11 I/O (301) (io), Y12 I/O (313) (io), Y15 I/O (325) (io), Y16 I/O (334) (io), Y17 I/O (337) (io), Y18 I/O (346) (io), Y19 I/O (358) (io)
part B pins: A1 GND (power), A19 O, TDO (0) (hiz), A20 CCLK (io), B7 GND (power), C1 I/O, TCK (137) (io), C14 VCC (power), D4 GND (power), D6 VCC (power), D7 VCC (power), D8 GND (power), D11 VCC (power), D13 GND (power), D14 VCC (power), D15 VCC (power), D17 GND (power), E4 I/O, TDI (134) (io), E20 VCC (power), F1 VCC (power), F4 VCC (power), F17 VCC (power), G1 I/O, TMS (158) (io), G4 VCC (power), G17 VCC (power), G20 GND (power), H4 GND (power), H17 GND (power), K4 VCC (power), L17 VCC (power), N3 GND (power), N4 GND (power), N17 GND (power), P4 VCC (power), P17 VCC (power), P19 VCC (power), R2 VCC (power), R4 VCC (power), R17 VCC (power), U4 GND (power), U6 VCC (power), U7 VCC (power), U8 GND (power), U10 VCC (power), U13 GND (power), U14 VCC (power), U15 VCC (power), U17 GND (power), V7 VCC (power), V19 ~{PROGRAM} (in), W2 O (M1) (242) (io), W3 I (M2) (246) (in), W14 GND (power), W20 VCC (power), Y1 I (M0) (245) (in), Y20 DONE (io)
part C pins: A6 NC, A7 NC, A13 NC, B13 NC, B16 NC, C4 NC, C7 NC, C8 NC, C13 NC, C16 NC, D5 NC, D12 NC, E19 NC, F2 NC, F3 NC, F18 NC, F19 NC, G18 NC, H1 NC, H2 NC, H20 NC, J3 NC, J4 NC, M4 NC, M19 NC, N1 NC, N2 NC, N18 NC, P20 NC, R3 NC, T1 NC, T18 NC, U20 NC, V9 NC, V13 NC, V15 NC, W6 NC, W9 NC, W10 NC, W13 NC, W16 NC, Y6 NC, Y9 NC, Y13 NC, Y14 NC